# Altium integrated library CDE_Library.IntLib: 6171 symbols (part 18 of 25)
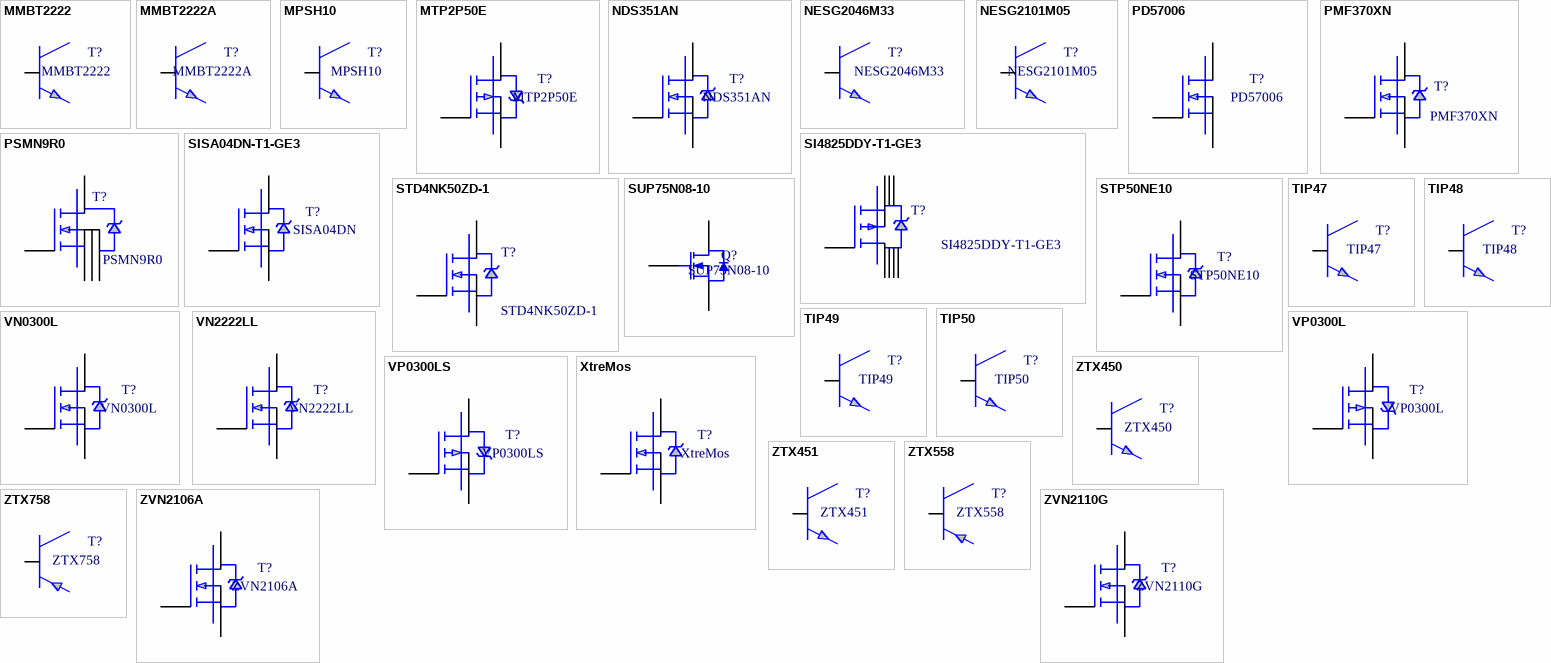
[diagram p274: symbols MMBT2222 to ZVN2110G]

## PMF370XN
designator T?
mosfet N-kanaal
footprint smd SOT-323
pins: 1, 2, 3

## PSMN9R0
designator T?
MOSFET, N CH, 25V, 46A
footprint smd SOT-669
pins: 1, 2, 3, 4, 5

## SI4825DDY-T1-GE3
designator T?
mosfet P-kanaal
footprint smd soicn/8
pins: 1, 2, 3, 4, 5, 6, 7, 8

## SISA04DN-T1-GE3
designator T?, comment SISA04DN
fet N-kanaal
footprint smd PPAK1212-8
pins: 1, 2, 3

## STD4NK50ZD-1
designator T?
mosfet N-kanaal
footprint TO-251aa
pins: 1, 2, 3

## STP50NE10
designator T?
mosfet N-kanaal
footprint TO-220 (vertikaal)
pins: 1, 2, 3

## SUP75N08-10
designator Q?
N-Channel 60V (D-S), 175'C  MOSFET
footprint TO-220 (vertikaal)
pins: 1 G, 2 D, 3 S

## TIP47
designator T?
NPN transistor
footprint TO-220 (vertikaal)
pins: 1, 2, 3

## TIP48
designator T?
NPN transistor
footprint TO-220 (vertikaal)
pins: 1, 2, 3

## TIP49
designator T?
NPN transistor
footprint TO-220 (vertikaal)
pins: 1, 2, 3

## TIP50
designator T?
NPN transistor
footprint TO-220 (vertikaal)
pins: 1, 2, 3

## VN0300L
designator T?
mosfet N-kanaal
footprint TO-92
pins: 1, 2, 3

## VN2222LL
designator T?
mosfet N-kanaal
footprint TO-92
pins: 1, 2, 3

## VP0300L
designator T?
mosfet P-kanaal
footprint TO-92
pins: 1, 2, 3

## VP0300LS
designator T?
mosfet P-kanaal
footprint TO-92
pins: 1, 2, 3

## XtreMos
designator T?
mosfet N-channel
footprint smd SO8FL/XtreMOS
pins: 1, 2, 3

## ZTX450
designator T?
NPN transistor
footprint E-line 3P
pins: 1, 2, 3

## ZTX451
designator T?
NPN transistor
footprint E-line 3P
pins: 1, 2, 3

## ZTX558
designator T?
PNP transistor
footprint E-line 3P
pins: 1, 2, 3

## ZTX758
designator T?
PNP transistor
footprint E-line 3P
pins: 1, 2, 3

## ZVN2106A
designator T?
mosfet N-kanaal
footprint TO-92
pins: 1, 2, 3

## ZVN2110G
designator T?
mosfet N-kanaal
footprint smd SOT-223
pins: 1, 2, 3


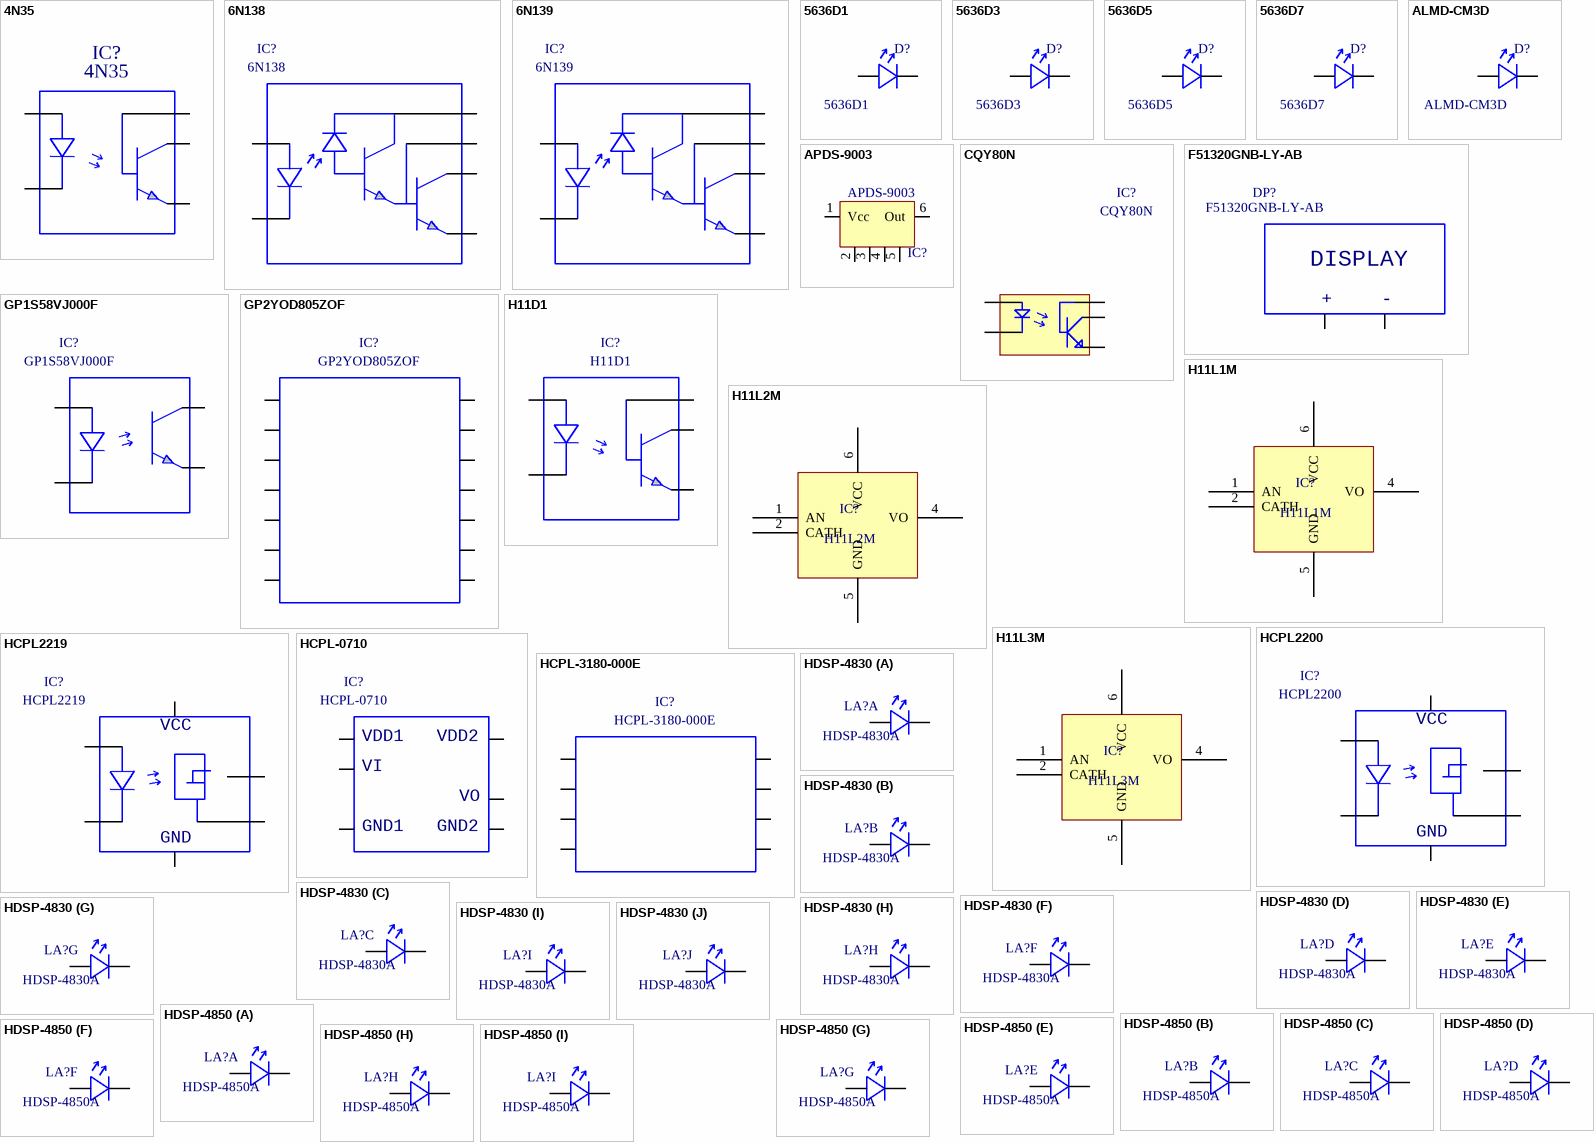
[diagram p194: symbols 4N35 to HDSP-4850]

## 4N35
designator IC?
general  purpose optocoupler
footprint icv DIP6-300
pins: 1, 2, 4, 5, 6

## 6N138
designator IC?
optocoupler, low input current, high gain, split darlington
footprint icv DIP8-300
pins: 2, 3, 5, 6, 7, 8

## 6N139
designator IC?
optocoupler, low input current, high gain, split darlington
footprint icv DIP8-300
pins: 2, 3, 5, 6, 7, 8

## 5636D1
designator D?
right angle led, CML 5636 serie, red
footprint CML5636
pins: 1, 2

## 5636D3
designator D?
right angle led, CML 5636 serie, amber
footprint CML5636
pins: 1, 2

## 5636D5
designator D?
right angle led, CML 5636 serie, green
footprint CML5636
pins: 1, 2

## 5636D7
designator D?
right angle led, CML 5636 serie, yellow
footprint CML5636
pins: 1, 2

## ALMD-CM3D
designator D?
led smd groen, Avago Techn., ALMD-CM3D
footprint led ALMD-xx3D (Avago Technologies)
pins: 1, 2

## APDS-9003
designator IC?
Miniature Surface-Mount Ambient Light Photo Sensor
footprint smd APDS-9003
pins: 1 Vcc, 2, 3, 4, 5, 6 Out

## CQY80N
designator IC?
general  purpose optocoupler
footprint icv DIP6-300
pins: 1, 2, 4, 5, 6

## F51320GNB-LY-AB
designator DP?
display
footprint F51320GNB-LY-AB (Optrex)
pins: 1, 2
text: DISPLAY; +; -

## GP1S58VJ000F
designator IC?
photointerruptor, Sharp GP1S58VJ000F
footprint photointerruptor GP1S58V (Sharp)
pins: 1, 2, 3, 4

## GP2YOD805ZOF
designator IC?
optical distance sensor, Sharp
footprint smd GP2Y0D805Z0F (Sharp)
pins: 1 CAT, 2 LED_FB, 3 LED, 4 GND, 5 NC, 6 NC, 7 REG, 8 NC, 9 NC, 10 NC, 11 VCC, 12 VIN, 13 VO, 14 ANODE

## H11D1
designator IC?
high voltage phototransistor optocoupler
footprint icv DIP6-300
pins: 1, 2, 4, 5, 6

## H11L1M
designator IC?
optoisolator logic output
footprint icv dip6-300
pins: 1 AN, 2 CATH, 4 VO, 5 GND, 6 VCC

## H11L2M
designator IC?
optoisolator logic output
footprint icv dip6-300
pins: 1 AN, 2 CATH, 4 VO, 5 GND, 6 VCC

## H11L3M
designator IC?
optoisolator logic output
footprint icv dip6-300
pins: 1 AN, 2 CATH, 4 VO, 5 GND, 6 VCC

## HCPL2200
designator IC?
optocoupler, low input current, logic gate
footprint icv DIP8-300
pins: 2, 3, 5, 6, 7, 8
text: VCC; GND

## HCPL2219
designator IC?
optocoupler, low input current, logic gate
footprint icv DIP8-300
pins: 2, 3, 5, 6, 7, 8
text: VCC; GND

## HCPL-0710
designator IC?
optocoupler, cmos, 40nS propag. delay
footprint smd SOICN/8
pins: 1, 2, 4, 5, 6, 8
text: VDD1; VDD2; VI; VO; GND1; GND2

## HCPL-3180-000E
designator IC?
2 Amp high speed gate drive optocoupler
footprint icv DIP8-300
pins: 1 NC, 2 ANODE, 3 CATHODE, 4 NC, 5 VEE, 6 VO, 7 VO, 8 VCC

## HDSP-4830
designator LA?, comment HDSP-4830A
led array 1x10 leds  rood
footprint led array 1x10 (Led Tech LL10000)
part A pins: 1, 20
part B pins: 2, 19
part C pins: 3, 18
part D pins: 4, 17
part E pins: 5, 16
part F pins: 6, 15
part G pins: 7, 14
part H pins: 8, 13
part I pins: 9, 12
part J pins: 10, 11

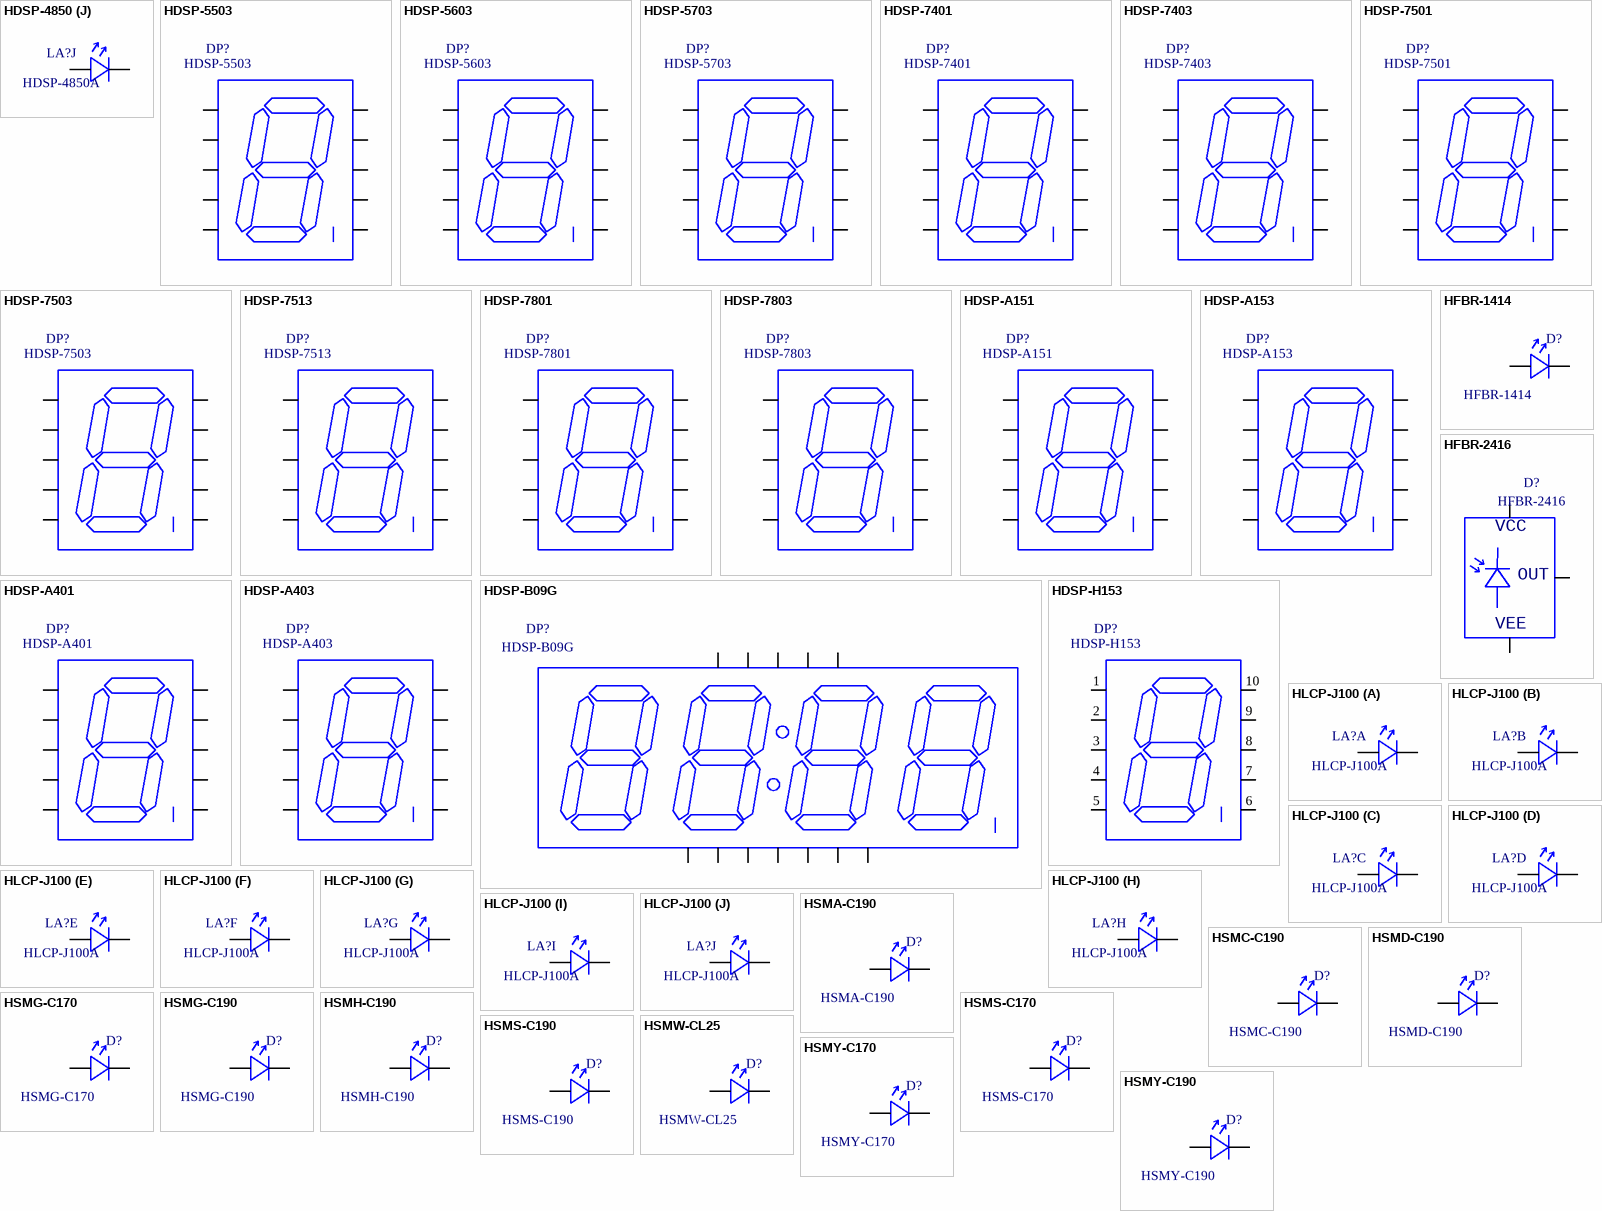
[diagram p195: symbols HDSP-4850 to HSMY-C190]

## HDSP-4850
designator LA?, comment HDSP-4850A
led array 1x10 leds  groen
footprint led array 1x10 (Led Tech LL10000)
part A pins: 1, 20
part B pins: 2, 19
part C pins: 3, 18
part D pins: 4, 17
part E pins: 5, 16
part F pins: 6, 15
part G pins: 7, 14
part H pins: 8, 13
part I pins: 9, 12
part J pins: 10, 11

## HDSP-5503
designator DP?
led display 7-segment Agilent, punt R, gem. C, HER
footprint dp H600/8./10p
pins: 1 e, 2 d, 3 CAT, 4 c, 5 dp, 6 b, 7 a, 8 CAT, 9 f, 10 g

## HDSP-5603
designator DP?
led display 7-segment Agilent, punt R, gem. C, groen
footprint dp H600/8./10p
pins: 1 e, 2 d, 3 CAT, 4 c, 5 dp, 6 b, 7 a, 8 CAT, 9 f, 10 g

## HDSP-5703
designator DP?
led display 7-segment Agilent, punt R, gem. C, geel
footprint dp H600/8./10p
pins: 1 e, 2 d, 3 CAT, 4 c, 5 dp, 6 b, 7 a, 8 CAT, 9 f, 10 g

## HDSP-7401
designator DP?
led display 7-segment Agilent, punt R, gem. A, geel
footprint dp H300/8./10p
pins: 1, 2, 3, 4, 5, 6, 7, 8, 9, 10

## HDSP-7403
designator DP?
led display 7-segment Agilent, punt R, gem. C, geel
footprint dp H300/8./10p
pins: 1, 2, 3, 4, 5, 6, 7, 8, 9, 10

## HDSP-7501
designator DP?
led display 7-segment Agilent, punt R, gem. A, HER
footprint dp H300/8./10p
pins: 1, 2, 3, 4, 5, 6, 7, 8, 9, 10

## HDSP-7503
designator DP?
led display 7-segment Agilent, punt R, gem. C, HER
footprint dp H300/8./10p
pins: 1, 2, 3, 4, 5, 6, 7, 8, 9, 10

## HDSP-7513
designator DP?
led display 7-segment Agilent, punt R, gem. C, HER
footprint dp H300/8./10p
pins: 1 CAT, 2 f, 3 g, 4 e, 5 d, 6 CAT, 7 dp, 8 c, 9 b, 10 a

## HDSP-7801
designator DP?
led display 7-segment Agilent, punt R, gem. A, groen
footprint dp H300/8./10p
pins: 1, 2, 3, 4, 5, 6, 7, 8, 9, 10

## HDSP-7803
designator DP?
led display 7-segment Agilent, punt R, gem. C, groen
footprint dp H300/8./10p
pins: 1, 2, 3, 4, 5, 6, 7, 8, 9, 10

## HDSP-A151
designator DP?
led display 7-segment Agilent, punt R, gem. A, AlGaAs
footprint dp H300/8./10p
pins: 1, 2, 3, 4, 5, 6, 7, 8, 9, 10

## HDSP-A153
designator DP?
led display 7-segment Agilent, punt R, gem. C, AlGaAs
footprint dp H300/8./10p
pins: 1, 2, 3, 4, 5, 6, 7, 8, 9, 10

## HDSP-A401
designator DP?
led display 7-segment Agilent, punt R, gem. A, oranje
footprint dp H300/8./10p
pins: 1, 2, 3, 4, 5, 6, 7, 8, 9, 10

## HDSP-A403
designator DP?
led display 7-segment Agilent, punt R, gem. C, oranje
footprint dp H300/8./10p
pins: 1, 2, 3, 4, 5, 6, 7, 8, 9, 10

## HDSP-B09G
designator DP?
led display 7-segment Agilent, 4-digit, groen
footprint dp HDSP-B09G (Agilent)
pins: 1, 2, 3, 4, 5, 6, 7, 8, 9, 10, 11, 12

## HDSP-H153
designator DP?
led display 7-segment Agilent, punt R, gem. C, AlGaAs
footprint dp H600/8./10p
pins: 1, 2, 3, 4, 5, 6, 7, 8, 9, 10

## HFBR-1414
designator D?
low cost high-speed transmitter
footprint optische connector (Agilent HFBR-1414)
pins: 2, 3

## HFBR-2416
designator D?
low cost high-speed receiver
footprint optische connector (Agilent HFBR-1414)
pins: 2, 6, 7
text: VCC; OUT; VEE

## HLCP-J100
designator LA?, comment HLCP-J100A
led array 1x10 leds  rood
footprint led array 1x10 (Led Tech LL10000)
part A pins: 1, 20
part B pins: 2, 19
part C pins: 3, 18
part D pins: 4, 17
part E pins: 5, 16
part F pins: 6, 15
part G pins: 7, 14
part H pins: 8, 13
part I pins: 9, 12
part J pins: 10, 11

## HSMA-C190
designator D?
led smd amber, Avago Techn., HSMA-C190
footprint led HSMH-C190 (Avago Technologies)
pins: 1, 2

## HSMC-C190
designator D?
led smd rood, Avago Techn., HSMC-C190
footprint led HSMH-C190 (Avago Technologies)
pins: 1, 2

## HSMD-C190
designator D?
led smd oranje, Avago Techn., HSMD-C190
footprint led HSMH-C190 (Avago Technologies)
pins: 1, 2

## HSMG-C170
designator D?
led smd groen, Avago Techn., HSMG-C170
footprint led HSMH-C190 (Avago Technologies)
pins: 1, 2

## HSMG-C190
designator D?
led smd groen, Avago Techn., HSMG-C190
footprint led HSMH-C190 (Avago Technologies)
pins: 1, 2

## HSMH-C190
designator D?
led smd rood, Avago Techn., HSMH-C190
footprint led HSMH-C190 (Avago Technologies)
pins: 1, 2

## HSMS-C170
designator D?
led smd he-rood, Avago Techn., HSMS-C170
footprint led HSMH-C190 (Avago Technologies)
pins: 1, 2

## HSMS-C190
designator D?
led smd rood HE, Avago Techn., HSMS-C190
footprint led HSMH-C190 (Avago Technologies)
pins: 1, 2

## HSMW-CL25
designator D?
led smd wit, Avago Techn., HSMW-CL25
footprint led HSMH-C190 (Avago Technologies)
pins: 1, 2

## HSMY-C170
designator D?
led smd geel, Avago Techn., HSMY-C170
footprint led HSMH-C190 (Avago Technologies)
pins: 1, 2

## HSMY-C190
designator D?
led smd geel, Avago Techn., HSMY-C190
footprint led HSMH-C190 (Avago Technologies)
pins: 1, 2

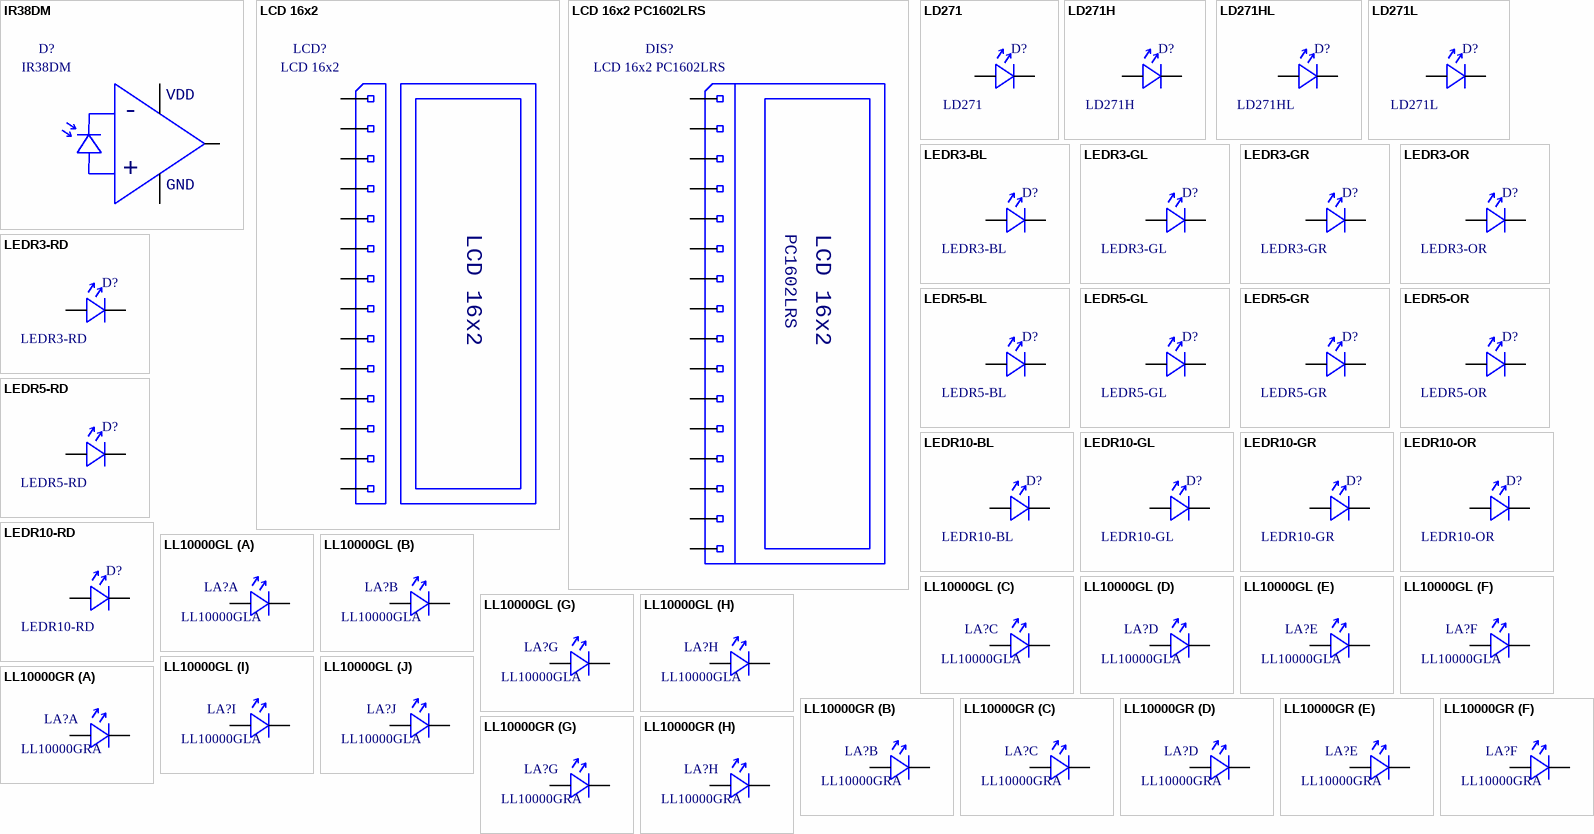
[diagram p196: symbols IR38DM to LL10000GR]

## IR38DM
designator D?
infrared demodulator, Velleman
footprint fotodiode (Taos TSL26xR)
pins: 1, 2, 3
text: VDD; -; +; GND

## LCD 16x2
designator LCD?
LCD display HD44780 compatible
footprint LCD 16x2 HD44780 compatible (LCD 16x2)
pins: 1 Vss, 2 Vdd, 3 Vo, 4 RS, 5 R/'W', 6 E, 7 DB0, 8 DB1, 9 DB2, 10 DB3, 11 DB4, 12 DB5, 13 DB6, 14 DB7

## LCD 16x2 PC1602LRS
designator DIS?
LCD display Powertip PC1602LRS
footprint LCD 16x2 PC1602LRS (Powertip PC1602LRS)
pins: 1 Vss, 2 Vdd, 3 Vo, 4 RS, 5 R/'W', 6 E, 7 DB0, 8 DB1, 9 DB2, 10 DB3, 11 DB4, 12 DB5, 13 DB6, 14 DB7, 15 A, 16 K
text: PC1602LRS; LCD 16x2

## LD271
designator D?
led rond 5mm  infrarood
footprint led (rond 5mm)
pins: 1, 2

## LD271H
designator D?
led rond 5mm  infrarood
footprint led (rond 5mm)
pins: 1, 2

## LD271HL
designator D?
led rond 5mm  infrarood
footprint led (rond 5mm)
pins: 1, 2

## LD271L
designator D?
led rond 5mm  infrarood
footprint led (rond 5mm)
pins: 1, 2

## LEDR3-BL
designator D?
led rond 3mm  blauw
footprint led (rond 3mm)
pins: 1, 2

## LEDR3-GL
designator D?
led rond 3mm  geel
footprint led (rond 3mm)
pins: 1, 2

## LEDR3-GR
designator D?
led rond 3mm  groen
footprint led (rond 3mm)
pins: 1, 2

## LEDR3-OR
designator D?
led rond 3mm  oranje
footprint led (rond 3mm)
pins: 1, 2

## LEDR3-RD
designator D?
led rond 3mm  rood
footprint led (rond 3mm)
pins: 1, 2

## LEDR5-BL
designator D?
led rond 5mm  blauw
footprint led (rond 5mm)
pins: 1, 2

## LEDR5-GL
designator D?
led rond 5mm  geel
footprint led (rond 5mm)
pins: 1, 2

## LEDR5-GR
designator D?
led rond 5mm  groen
footprint led (rond 5mm)
pins: 1, 2

## LEDR5-OR
designator D?
led rond 5mm  oranje
footprint led (rond 5mm)
pins: 1, 2

## LEDR5-RD
designator D?
led rond 5mm  rood
footprint led (rond 5mm)
pins: 1, 2

## LEDR10-BL
designator D?
led rond 10mm blauw
footprint led (rond 10mm)
pins: 1, 2

## LEDR10-GL
designator D?
led rond 10mm geel
footprint led (rond 10mm)
pins: 1, 2

## LEDR10-GR
designator D?
led rond 10mm groen
footprint led (rond 10mm)
pins: 1, 2

## LEDR10-OR
designator D?
led rond 10mm oranje
footprint led (rond 10mm)
pins: 1, 2

## LEDR10-RD
designator D?
led rond 10mm rood
footprint led (rond 10mm)
pins: 1, 2

## LL10000GL
designator LA?, comment LL10000GLA
led array 1x10 leds  geel
footprint led array 1x10 (Led Tech LL10000)
part A pins: 1, 20
part B pins: 2, 19
part C pins: 3, 18
part D pins: 4, 17
part E pins: 5, 16
part F pins: 6, 15
part G pins: 7, 14
part H pins: 8, 13
part I pins: 9, 12
part J pins: 10, 11

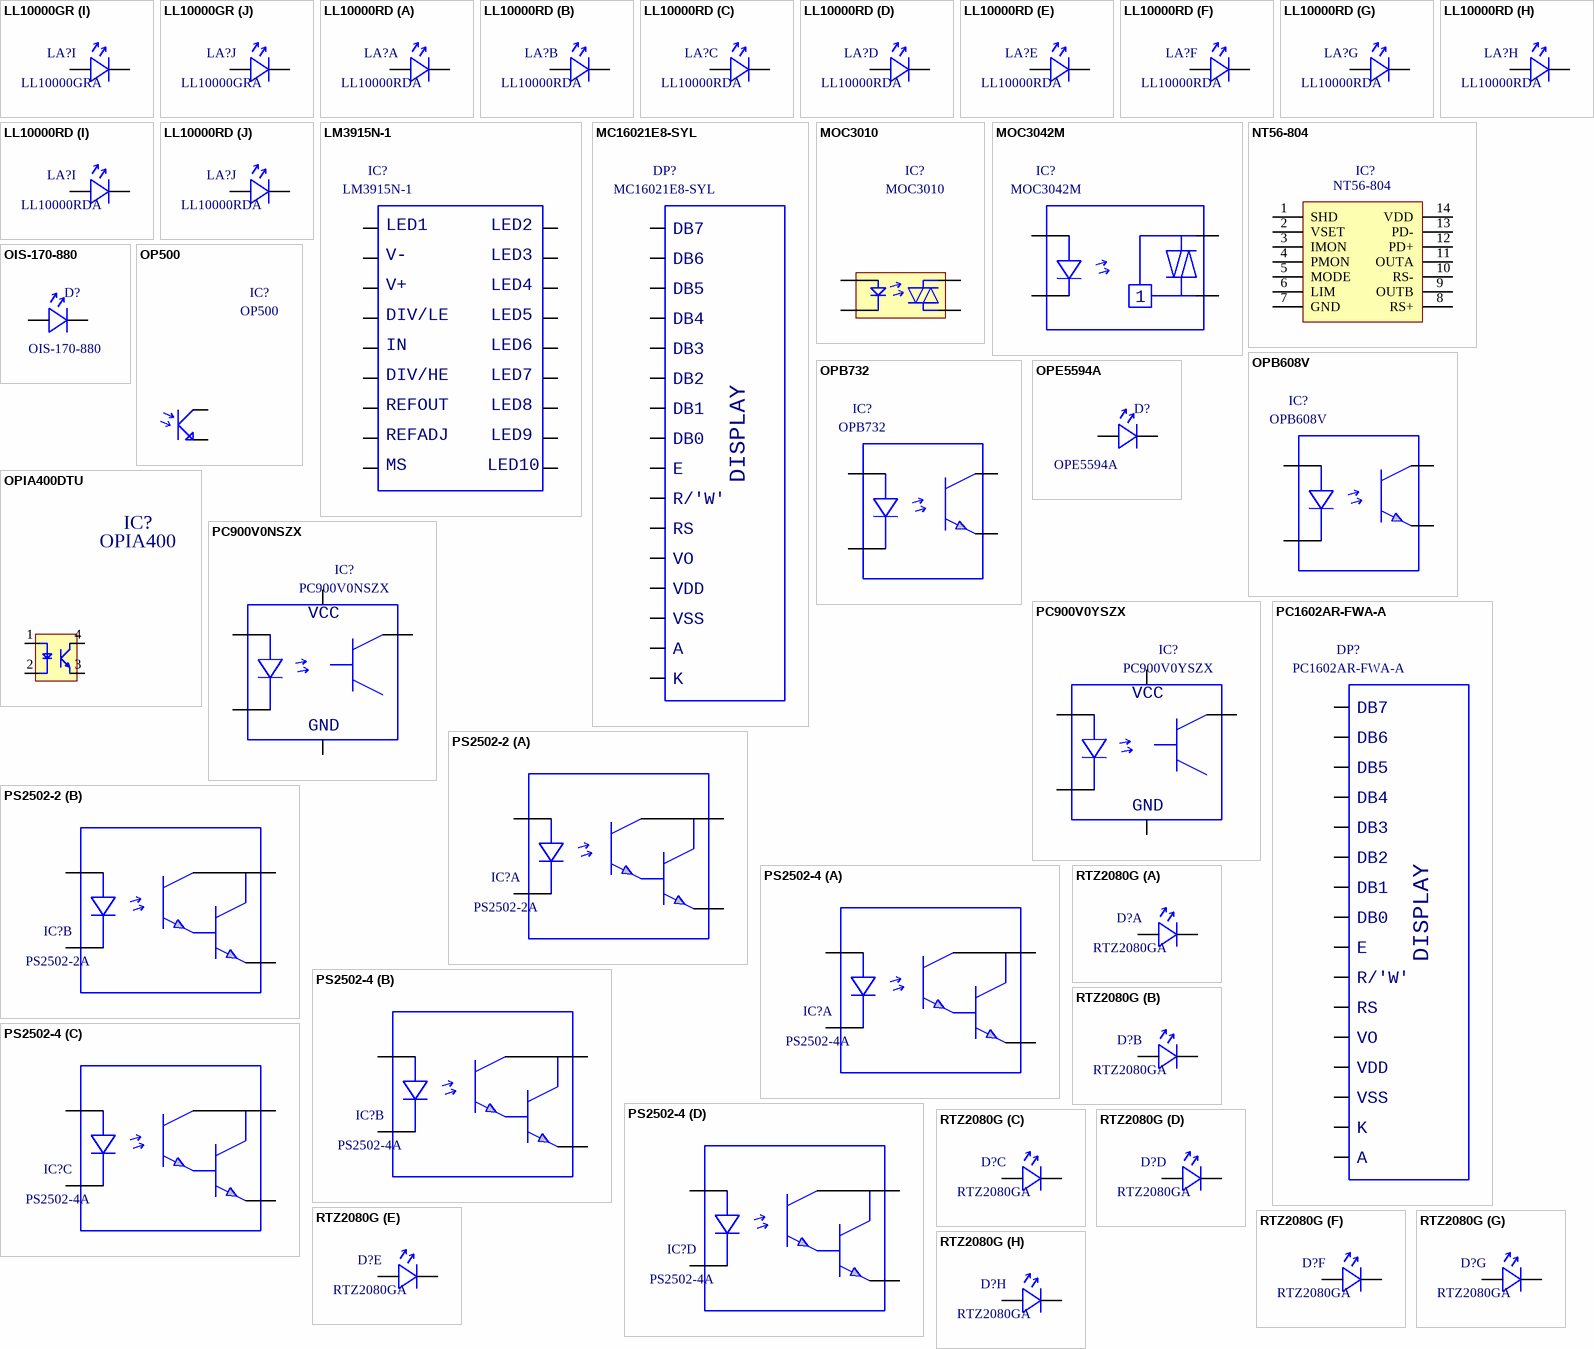
[diagram p197: symbols LL10000GR to RTZ2080G]

## LL10000GR
designator LA?, comment LL10000GRA
led array 1x10 leds  groen
footprint led array 1x10 (Led Tech LL10000)
part A pins: 1, 20
part B pins: 2, 19
part C pins: 3, 18
part D pins: 4, 17
part E pins: 5, 16
part F pins: 6, 15
part G pins: 7, 14
part H pins: 8, 13
part I pins: 9, 12
part J pins: 10, 11

## LL10000RD
designator LA?, comment LL10000RDA
led array 1x10 leds  rood
footprint led array 1x10 (Led Tech LL10000)
part A pins: 1, 20
part B pins: 2, 19
part C pins: 3, 18
part D pins: 4, 17
part E pins: 5, 16
part F pins: 6, 15
part G pins: 7, 14
part H pins: 8, 13
part I pins: 9, 12
part J pins: 10, 11

## LM3915N-1
designator IC?
dot/bar display driver
footprint icv DIP18-300
pins: 1, 2, 3, 4, 5, 6, 7, 8, 9, 10, 11, 12, 13, 14, 15, 16, 17, 18
text: LED1; LED2; V-; LED3; V+; LED4; DIV/LE; LED5; IN; LED6; DIV/HE; LED7; REFOUT; LED8; REFADJ; LED9; MS; LED10

## MC16021E8-SYL
designator DP?
lcd display
footprint MC16021E8-SYL (Everbouquet)
pins: 1, 2, 3, 4, 5, 6, 7, 8, 9, 10, 11, 12, 13, 14, 15, 16
text: DB7; DB6; DB5; DB4; DB3; DB2; DB1; DB0; E; DISPLAY; R/'W'; RS; VO; VDD; VSS; A; K

## MOC3010
designator IC?
Optocoupler Triac driver
footprint icv DIP6-300
pins: 1, 2, 4, 6

## MOC3042M
designator IC?
Optocoupler Triac driver
footprint icv DIP6-300
pins: 1, 2, 4, 6

## NT56-804
designator IC?
Ultrastable Driver for Laser Diodes
footprint NT56-804
pins: 1 SHD, 2 VSET, 3 IMON, 4 PMON, 5 MODE, 6 LIM, 7 GND (power), 8 RS+, 9 OUTB, 10 RS-, 11 OUTA, 12 PD+, 13 PD-, 14 VDD (power)

## OIS-170-880
designator D?
infrarood led, high intensity
footprint SMD C0805 (Chip Capacitor; Body 2.0 x 1.2 mm (LxW typ))
pins: 1, 2

## OP500
designator IC?
Silicon Phototransistor
footprint SMD C0805 (Chip Capacitor; Body 2.0 x 1.2 mm (LxW typ))
pins: 1, 2

## OPB608V
designator IC?
reflective sensor, Optek
footprint sensor OPB608 (Optek Technology)
pins: 1, 2, 3, 4

## OPB732
designator IC?
long distance reflective switch
footprint OPB732 (Optek)
pins: 1, 2, 3, 4

## OPE5594A
designator D?
infrarood led, 5mm
footprint led (rond 5mm)
pins: 1, 2

## OPIA400DTU
designator IC?, comment OPIA400
general  purpose optocoupler
footprint icv DIP4-300
pins: 1, 2, 3, 4

## PC900V0NSZX
designator IC?
optocoupler
footprint icv DIP6-300
pins: 1, 2, 4, 5, 6
text: VCC; GND

## PC900V0YSZX
designator IC?
optocoupler
footprint icv DIP6-300
pins: 1, 2, 4, 5, 6
text: VCC; GND

## PC1602AR-FWA-A
designator DP?
lcd display
footprint PC1602AR-FWA-A (Powertip)
pins: 1, 2, 3, 4, 5, 6, 7, 8, 9, 10, 11, 12, 13, 14, 15, 16
text: DB7; DB6; DB5; DB4; DB3; DB2; DB1; DB0; E; DISPLAY; R/'W'; RS; VO; VDD; VSS; K; A

## PS2502-2
designator IC?, comment PS2502-2A
high isolation darlington optocouplers, NEC
footprint icv DIP8-300
part A pins: 1, 2, 7, 8
part B pins: 3, 4, 5, 6

## PS2502-4
designator IC?, comment PS2502-4A
high isolation darlington optocouplers, NEC
footprint icv DIP16-300
part A pins: 1, 2, 15, 16
part B pins: 3, 4, 13, 14
part C pins: 5, 6, 11, 12
part D pins: 7, 8, 9, 10

## RTZ2080G
designator D?, comment RTZ2080GA
led array, 1x8 leds 2mm, rechtop, groen, Mentor
footprint led array 1x8 (Mentor RTZ2080)
part A pins: 1, 2
part B pins: 3, 4
part C pins: 5, 6
part D pins: 7, 8
part E pins: 9, 10
part F pins: 11, 12
part G pins: 13, 14
part H pins: 15, 16

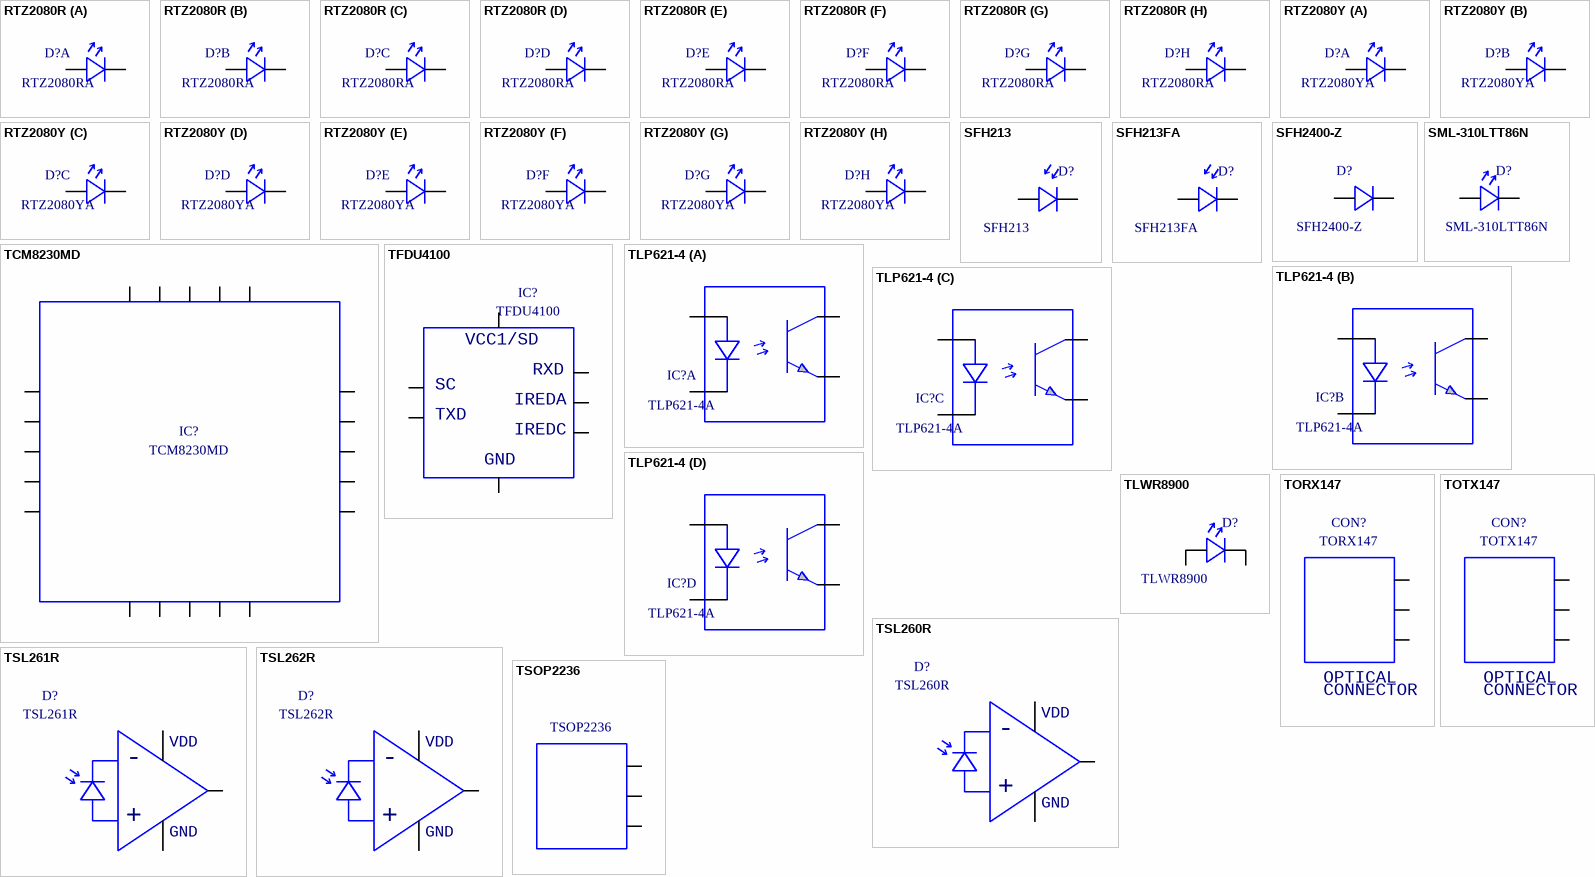
[diagram p198: symbols RTZ2080R to TSOP2236]

## RTZ2080R
designator D?, comment RTZ2080RA
led array, 1x8 leds 2mm, rechtop, rood, Mentor
footprint led array 1x8 (Mentor RTZ2080)
part A pins: 1, 2
part B pins: 3, 4
part C pins: 5, 6
part D pins: 7, 8
part E pins: 9, 10
part F pins: 11, 12
part G pins: 13, 14
part H pins: 15, 16

## RTZ2080Y
designator D?, comment RTZ2080YA
led array, 1x8 leds 2mm, rechtop, geel, Mentor
footprint led array 1x8 (Mentor RTZ2080)
part A pins: 1, 2
part B pins: 3, 4
part C pins: 5, 6
part D pins: 7, 8
part E pins: 9, 10
part F pins: 11, 12
part G pins: 13, 14
part H pins: 15, 16

## SFH213
designator D?
silicium pin-fotodiode
footprint led (rond 5mm)
pins: 1, 2

## SFH213FA
designator D?
silicium pin-fotodiode
footprint led (rond 5mm)
pins: 1, 2

## SFH2400-Z
designator D?
photodetector, Osram SFH2400-Z
footprint smd SFH2400 (Osram)
pins: 1, 2

## SML-310LTT86N
designator D?
led, high intensity
footprint SMD C0603 (Chip Capacitor; Body 1.6 x 0.8 mm (LxW typ))
pins: 1, 2

## TCM8230MD
designator IC?
camera module Toshiba
footprint TCM8230MD (Toshiba)
pins: 1 PVDD, 2 EXTCLK, 3 RESET, 4 SCL, 5 SDA, 6 DVDD, 7 DVSS, 8 VD, 9 HD, 10 DCLK, 11 DOUT0, 12 DOUT1, 13 DOUT2, 14 DOUT3, 15 IOVSS, 16 IOVDD, 17 DOUT4, 18 DOUT5, 19 DOUT6, 20 DOUT7

## TFDU4100
designator IC?
seriële infrarood transceiver
footprint TFDU4100
pins: 1, 2, 3, 4, 6, 7, 8
text: VCC1/SD; RXD; SC; IREDA; TXD; IREDC; GND

## TLP621-4
designator IC?, comment TLP621-4A
quadruple optocoupler
footprint icv DIP16-300
part A pins: 1, 2, 15, 16
part B pins: 3, 4, 13, 14
part C pins: 5, 6, 11, 12
part D pins: 7, 8, 9, 10

## TLWR8900
designator D?
Red LED vishay TLW series
footprint led (Vishay TLWR)
pins: 1, 2, 3, 4

## TORX147
designator CON?
optical receiver, Toslink, Toshiba
footprint optische ontvanger TORX147 (Toshiba)
pins: 1 OUT, 2 GND, 3 VCC
text: OPTICAL; CONNECTOR

## TOTX147
designator CON?
optical transmitter, Toslink, Toshiba
footprint optische ontvanger TORX147 (Toshiba)
pins: 1 GND, 2 VCC, 3 IN
text: OPTICAL; CONNECTOR

## TSL260R
designator D?
infrared light-to-voltage optical sensor, Taos
footprint fotodiode (Taos TSL26xR)
pins: 1, 2, 3
text: VDD; -; +; GND

## TSL261R
designator D?
infrared light-to-voltage optical sensor, Taos
footprint fotodiode (Taos TSL26xR)
pins: 1, 2, 3
text: VDD; -; +; GND

## TSL262R
designator D?
infrared light-to-voltage optical sensor, Taos
footprint fotodiode (Taos TSL26xR)
pins: 1, 2, 3
text: VDD; -; +; GND

## TSOP2236
designator ?
IR receiver module, Vishay
pins: 1, 2, 3


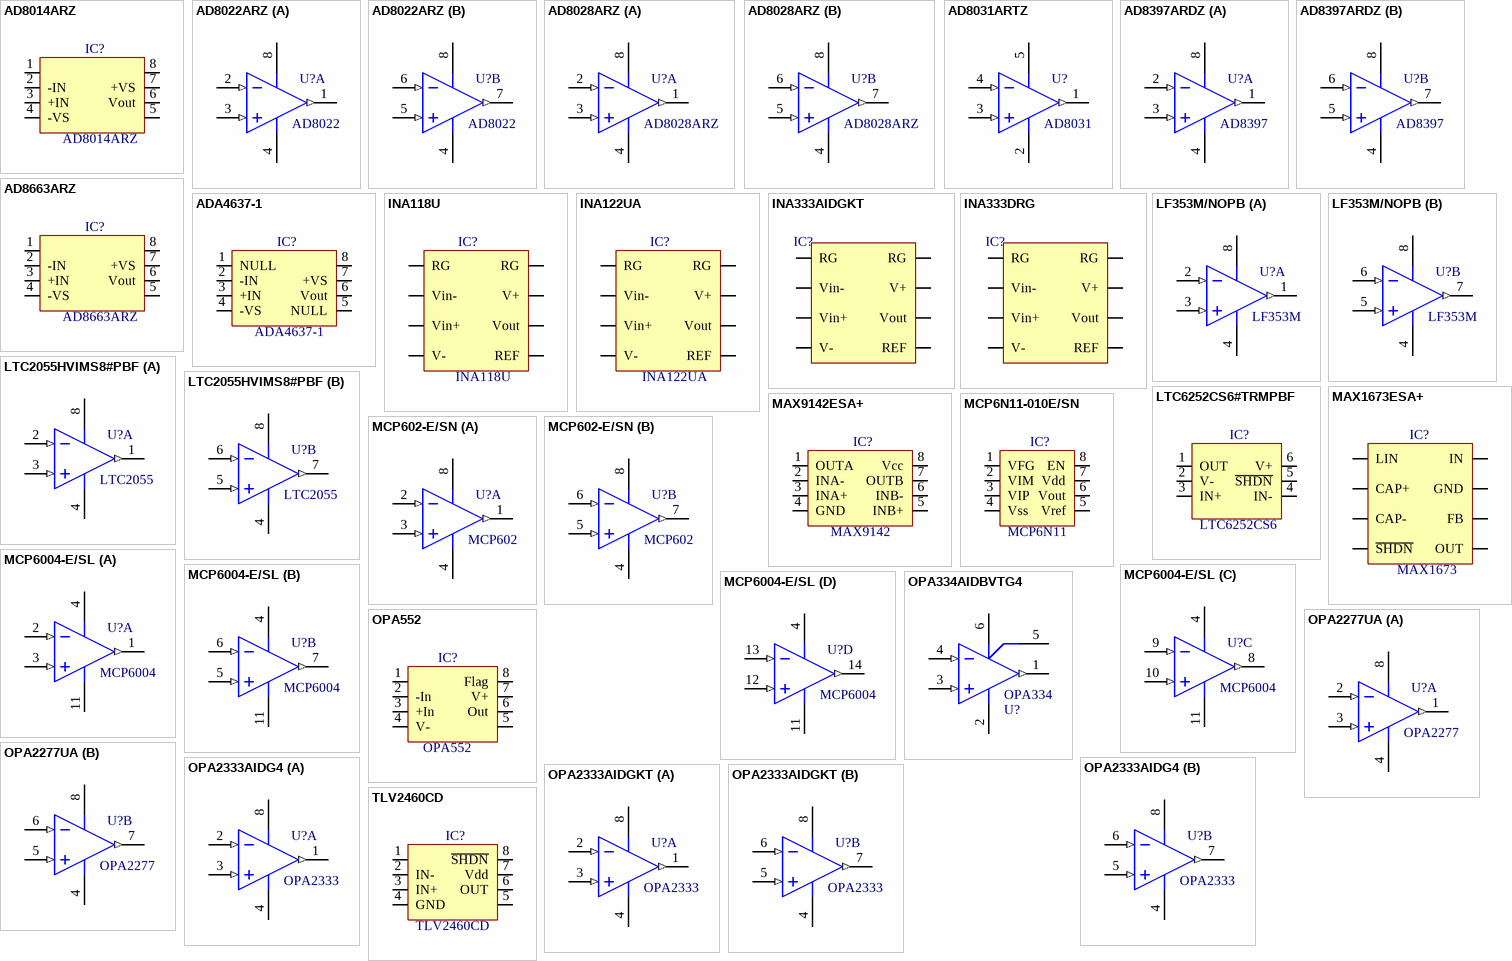
[diagram p199: symbols AD8014ARZ to TLV2460CD]

## AD8014ARZ
designator IC?
40ns, 400 MHz Low Power  High Performance Amplifier
footprint smd SOICN/8
pins: 1, 2 -IN, 3 +IN, 4 -VS, 5, 6 Vout, 7 +VS, 8

## AD8022ARZ
designator U?, comment AD8022
Low Distortion, High Speed   Rail-to-Rail Input/Output Amplifier
footprint smd soicn/8
pins on every part: 4 V- (power), 8 V+ (power)
part A pins: 1 OUT (out), 2 IN- (in), 3 IN+ (in)
part B pins: 5 IN+ (in), 6 IN- (in), 7 OUT (out)

## AD8028ARZ
designator U?
Low Distortion, High Speed   Rail-to-Rail Input/Output Amplifier
footprint smd soicn/8
pins on every part: 4 V- (power), 8 V+ (power)
part A pins: 1 OUT (out), 2 IN- (in), 3 IN+ (in)
part B pins: 5 IN+ (in), 6 IN- (in), 7 OUT (out)

## AD8031ARTZ
designator U?, comment AD8031
2.7 V, 800 µA, 80 MHz   Rail-to-Rail I/O Amplifier
footprint smd SOT-23/5p (body 1.6 wide, pitch 0.95mm)
pins: 1 OUT (out), 2 V- (power), 3 IN+ (in), 4 IN- (in), 5 V+ (power)

## AD8397ARDZ
designator U?, comment AD8397
Rail-to-Rail, High Output   Current Amplifier
footprint smd soicn/8
pins on every part: 4 V- (power), 8 V+ (power)
part A pins: 1 OUT (out), 2 IN- (in), 3 IN+ (in)
part B pins: 5 IN+ (in), 6 IN- (in), 7 OUT (out)

## AD8663ARZ
designator IC?
Low Noise, Precision, 16 V, CMOS,  Rail-to-Rail Operational Amplifier
footprint smd SOICN/8
pins: 1, 2 -IN, 3 +IN, 4 -VS, 5, 6 Vout, 7 +VS, 8

## ADA4637-1
designator IC?
36 V, 80 MHz, Low Noise,   Low Bias Current, JFET Op Amp
footprint smd SOICN/8
pins: 1 NULL, 2 -IN, 3 +IN, 4 -VS, 5 NULL, 6 Vout, 7 +VS, 8

## INA118U
designator IC?
Rail-to-rail instrumentation Amplifier
footprint smd SOICN/8
pins: 1 RG, 2 Vin-, 3 Vin+, 4 V-, 5 REF, 6 Vout, 7 V+, 8 RG

## INA122UA
designator IC?
Rail-to-rail instrumentation Amplifier
footprint smd SOICN/8
pins: 1 RG, 2 Vin-, 3 Vin+, 4 V-, 5 REF, 6 Vout, 7 V+, 8 RG

## INA333AIDGKT
designator IC?  (value not drawn)
Rail-to-rail instrumentation Amplifier
footprint smd MSOP/8
pins: 1 RG, 2 Vin-, 3 Vin+, 4 V-, 5 REF, 6 Vout, 7 V+, 8 RG

## INA333DRG
designator IC?  (value not drawn)
Rail-to-rail instrumentation Amplifier
footprint smd DFN8 (3x3/0.5)
pins: 1 RG, 2 Vin-, 3 Vin+, 4 V-, 5 REF, 6 Vout, 7 V+, 8 RG

## LF353M/NOPB
designator U?, comment LF353M
Dual Wide Bandwidth Dual JFET Input Operational Amplifier
footprint smd soicn/8
pins on every part: 4 V- (power), 8 V+ (power)
part A pins: 1 OUT (out), 2 IN- (in), 3 IN+ (in)
part B pins: 5 IN+ (in), 6 IN- (in), 7 OUT (out)

## LTC2055HVIMS8#PBF
designator U?, comment LTC2055
Dual Micropower  Zero-Drift Operational Amplifi er
footprint smd MSOP/8
pins on every part: 4 V- (power), 8 V+ (power)
part A pins: 1 OUT (out), 2 IN- (in), 3 IN+ (in)
part B pins: 5 IN+ (in), 6 IN- (in), 7 OUT (out)

## LTC6252CS6#TRMPBF
designator IC?, comment LTC6252CS6
720MHz, 3.5mA Power   Efficient Rail-to-Rail   I/O Op Amp
footprint smd SOT-23/6p (body 1.6 wide, pitch 0.95mm)
pins: 1 OUT, 2 V-, 3 IN+, 4 IN-, 5 ~{SHDN}, 6 V+

## MAX1673ESA+
designator IC?, comment MAX1673
Regulated, 125mA-Output,  Charge-Pump DC-DC Inverter
footprint smd SOICN/8
pins: 1 LIN, 2 CAP+, 3 CAP-, 4 ~{SHDN}, 5 OUT, 6 FB, 7 GND, 8 IN

## MAX9142ESA+
designator IC?, comment MAX9142
40ns, Low-Power, 3V/5V, Rail-to-Rail  Single-Supply Comparator
footprint smd SOICN/8
pins: 1 OUTA, 2 INA-, 3 INA+, 4 GND, 5 INB+, 6 INB-, 7 OUTB, 8 Vcc

## MCP6N11-010E/SN
designator IC?, comment MCP6N11
500 kHz, 800 µA Instrumentation Amplifier
footprint smd soicn/8
pins: 1 VFG, 2 VIM, 3 VIP, 4 Vss, 5 Vref, 6 Vout, 7 Vdd, 8 EN

## MCP602-E/SN
designator U?, comment MCP602
Dual 2.7V to 6.0V Single Supply CMOS Op Amp
footprint smd soicn/8
pins on every part: 4 V- (power), 8 V+ (power)
part A pins: 1 OUT (out), 2 IN- (in), 3 IN+ (in)
part B pins: 5 IN+ (in), 6 IN- (in), 7 OUT (out)

## MCP6004-E/SL
designator U?, comment MCP6004
Quad 1Mhz Opamp
footprint smd SOICN/14
part A pins: 1 OUT (out), 2 IN- (in), 3 IN+ (in), 4 V+ (power), 11 V- (power)
part B pins: 4 V+ (power), 5 IN+ (in), 6 IN- (in), 7 OUT (out), 11 V- (power)
part C pins: 4 V+ (power), 8 OUT (out), 9 IN- (in), 10 IN+ (in), 11 V- (power)
part D pins: 4 V+ (power), 11 V- (power), 12 IN+ (in), 13 IN- (in), 14 OUT (out)

## OPA334AIDBVTG4
designator U?, comment OPA334
High Precision  OPERATIONAL AMPLIFIER
footprint smd SOT-23/6p (body 1.6 wide, pitch 0.95mm)
pins: 1 OUT (out), 2 V- (power), 3 IN+ (in), 4 IN- (in), 5, 6 V+ (power)

## OPA552
designator IC?
High-Voltage, High-Current operational amplifier
footprint icv DIP8-300
pins: 1, 2 -In, 3 +In, 4 V-, 5, 6 Out, 7 V+, 8 Flag

## OPA2277UA
designator U?, comment OPA2277
High Precision  OPERATIONAL AMPLIFIER
footprint smd soicn/8
pins on every part: 4 V- (power), 8 V+ (power)
part A pins: 1 OUT (out), 2 IN- (in), 3 IN+ (in)
part B pins: 5 IN+ (in), 6 IN- (in), 7 OUT (out)

## OPA2333AIDG4
designator U?, comment OPA2333
Dual Micropower  Zero-Drift Operational Amplifi er
footprint smd soicn/8
pins on every part: 4 V- (power), 8 V+ (power)
part A pins: 1 OUT (out), 2 IN- (in), 3 IN+ (in)
part B pins: 5 IN+ (in), 6 IN- (in), 7 OUT (out)

## OPA2333AIDGKT
designator U?, comment OPA2333
Dual Micropower  Zero-Drift Operational Amplifi er
footprint smd MSOP/8
pins on every part: 4 V- (power), 8 V+ (power)
part A pins: 1 OUT (out), 2 IN- (in), 3 IN+ (in)
part B pins: 5 IN+ (in), 6 IN- (in), 7 OUT (out)

## TLV2460CD
designator IC?
Rail to rail opamp
footprint smd SOICN/8
pins: 1, 2 IN-, 3 IN+, 4 GND, 5, 6 OUT, 7 Vdd, 8 ~{SHDN}


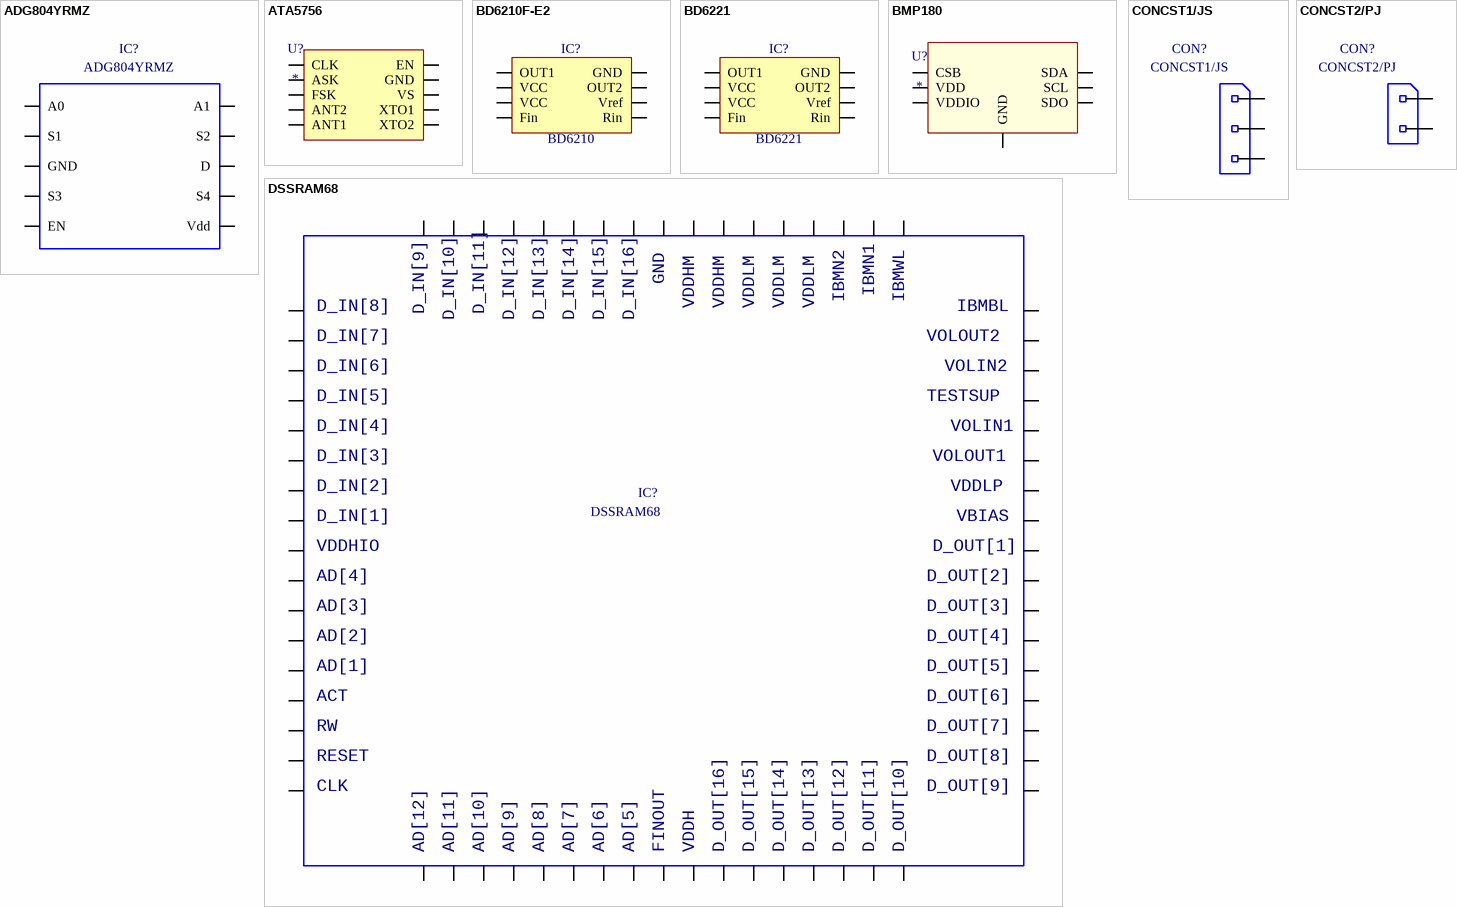
[diagram p200: symbols ADG804YRMZ to DSSRAM68]

## ADG804YRMZ
designator IC?
4-channel multiplexer ref. Jens Verbeeck; Part Number: ADG804YRMZ; Component Kind: Standard; Component Type: Standard; Designator: ADG804YRMZ; Footprint: smd MSOP/10; Library Reference: ADG804YRMZ; Pin Count: 10
footprint smd MSOP/10
pins: 1 A0, 2 S1, 3 GND, 4 S3, 5 EN, 6 Vdd, 7 S4, 8 D, 9 S2, 10 A1

## ATA5756
designator U?
UHF ASK/FSK  Transmitter
footprint TSSOP10
pins: 1 CLK, 2 ASK, 3 FSK, 4 ANT2, 5 ANT1, 6 XTO2, 7 XTO1, 8 VS, 9 GND, 10 EN

## BD6210F-E2
designator IC?, comment BD6210
H-brug 7V-0.5A; Part Number: BD6221; Component Kind: Standard; Component Type: Standard; Designator: BD6221; Footprint: smd SOICN/8; Library Reference: BD6221; Pin Count: 8
footprint smd SOICN/8
pins: 1 OUT1, 2 VCC, 3 VCC, 4 Fin, 5 Rin, 6 Vref, 7 OUT2, 8 GND

## BD6221
designator IC?
H-brug 18V-1A; Part Number: BD6221; Component Kind: Standard; Component Type: Standard; Designator: BD6221; Footprint: smd SOICN/8; Library Reference: BD6221; Pin Count: 8
footprint smd SOICN/8
pins: 1 OUT1, 2 VCC, 3 VCC, 4 Fin, 5 Rin, 6 Vref, 7 OUT2, 8 GND

## BMP180
designator U?
Digital Pressure Sensor Bosch
footprint BMP180 (Pressure sensor Bosch)
pins: 1 CSB, 2 VDD, 3 VDDIO, 4 SDO, 5 SCL, 6 SDA, 7 GND

## CONCST1/JS
designator CON?
ref. Jan Symons; Part Number: CONCST1/JS; Component Kind: Standard; Component Type: Standard; Designator: CONCST1/JS; Footprint: con custom 1; Library Reference: CONCST1/JS; Pin Count: 3
footprint con custom 1
pins: 1, 2, 3

## CONCST2/PJ
designator CON?
ref. Pieter Jacqmaer; Part Number: CONCST2/PJ; Component Kind: Standard; Component Type: Standard; Designator: CONCST2/PJ; Footprint: con CST2/PJ; Library Reference: CONCST2/PJ; Pin Count: 2
footprint con CST2/PJ
pins: 1, 2

## DSSRAM68
designator IC?
ref. Peter Geens; Part Number: DSSRAM68; Component Kind: Standard; Component Type: Standard; Designator: DSSRAM68; Footprint: icv LCC/.1/68 (3M); Library Reference: DSSRAM68; Pin Count: 68
footprint icv LCC/.1/68 (3M)
pins: 1, 2, 3, 4, 5, 6, 7, 8, 9, 10, 11, 12, 13, 14, 15, 16, 17, 18, 19, 20, 21, 22, 23, 24, 25, 26, 27, 28, 29, 30, 31, 32, 33, 34, 35, 36, 37, 38, 39, 40, 41, 42, 43, 44, 45, 46, 47, 48, 49, 50, 51, 52, 53, 54, 55, 56, 57, 58, 59, 60, 61, 62, 63, 64, 65, 66, 67, 68
text: GND; IBMN1; IBMN2; IBMWL; VDDHM; VDDLM; D_IN[8]; D_IN[9]; D_IN[10]; D_IN[11]; D_IN[12]; D_IN[13]; D_IN[14]; D_IN[15]; D_IN[16]; IBMBL; D_IN[7]; VOLOUT2; D_IN[6]; VOLIN2; D_IN[5]; TESTSUP; D_IN[4]; VOLIN1; D_IN[3]; VOLOUT1; D_IN[2]; VDDLP; D_IN[1]; VBIAS; VDDHIO; D_OUT[1]; AD[4]; D_OUT[2]; AD[3]; D_OUT[3]; AD[2]; D_OUT[4]; AD[1]; D_OUT[5]; ACT; D_OUT[6]; RW; D_OUT[7]; RESET; D_OUT[8]; CLK; D_OUT[9]; AD[12]; AD[11]; AD[10]; AD[9]; AD[8]; AD[7]; AD[6]; AD[5]; FINOUT; VDDH; D_OUT[16]; D_OUT[15]; D_OUT[14]; D_OUT[13]; D_OUT[12]; D_OUT[11]; D_OUT[10]

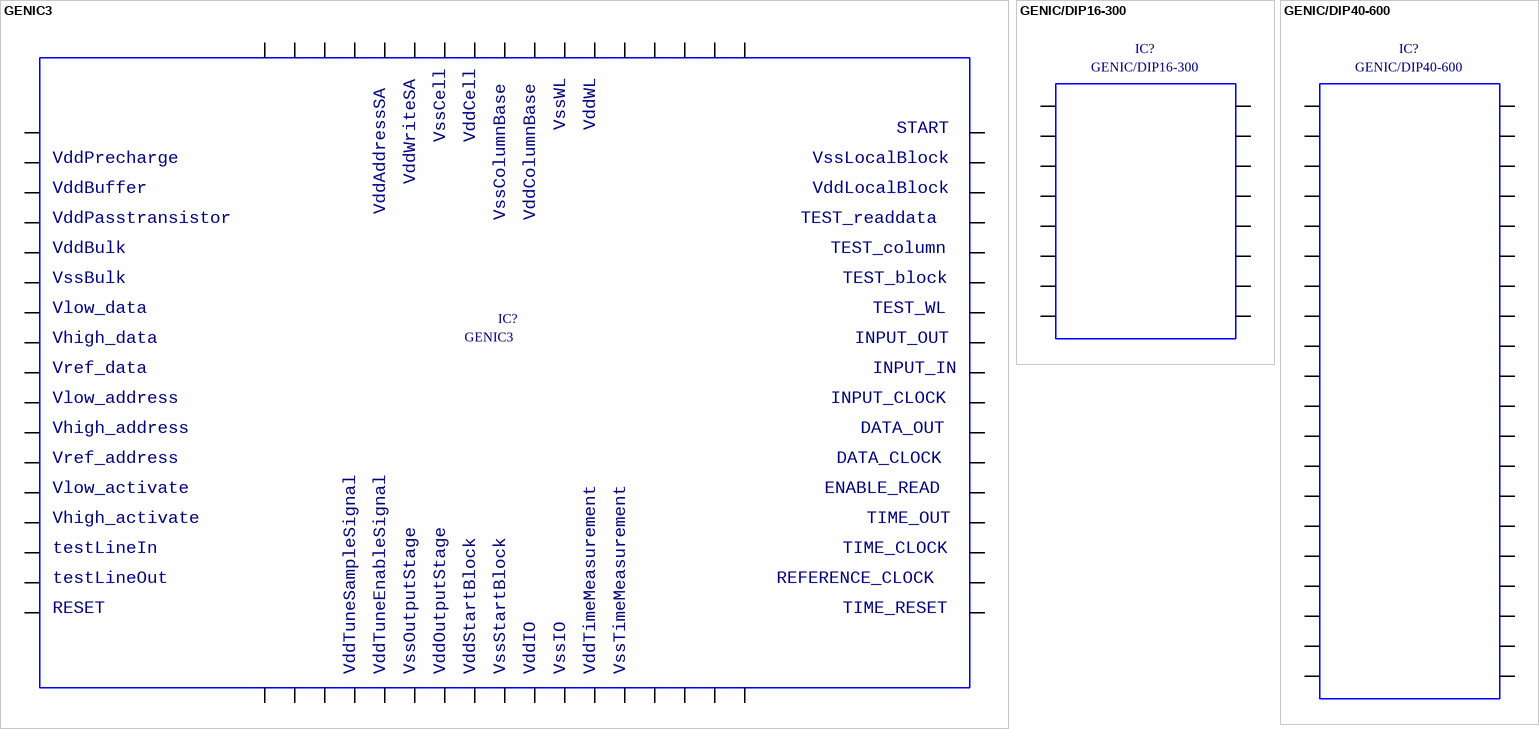
[diagram p201: symbols GENIC3 to GENIC/DIP40-600]

## GENIC3
designator IC?
ref. Stefan Cosemans; Part Number: GENIC3; Component Kind: Standard; Component Type: Standard; Designator: GENIC3; Footprint: icv LCC/.1/68 (3M); Library Reference: GENIC3; Pin Count: 68
footprint icv LCC/.1/68 (3M)
pins: 1, 2, 3, 4, 5, 6, 7, 8, 9, 10, 11, 12, 13, 14, 15, 16, 17, 18, 19, 20, 21, 22, 23, 24, 25, 26, 27, 28, 29, 30, 31, 32, 33, 34, 35, 36, 37, 38, 39, 40, 41, 42, 43, 44, 45, 46, 47, 48, 49, 50, 51, 52, 53, 54, 55, 56, 57, 58, 59, 60, 61, 62, 63, 64, 65, 66, 67, 68
text: VssWL; VddWL; VssCell; VddCell; START; VddPrecharge; VssLocalBlock; VddWriteSA; VddBuffer; VddLocalBlock; VddAddressSA; VssColumnBase; VddColumnBase; VddPasstransistor; TEST_readdata; VddBulk; TEST_column; VssBulk; TEST_block; Vlow_data; TEST_WL; Vhigh_data; INPUT_OUT; Vref_data; INPUT_IN; Vlow_address; INPUT_CLOCK; Vhigh_address; DATA_OUT; Vref_address; DATA_CLOCK; Vlow_activate; ENABLE_READ; Vhigh_activate; TIME_OUT; testLineIn; TIME_CLOCK; testLineOut; REFERENCE_CLOCK; RESET; TIME_RESET; VddTuneSampleSignal; VddTuneEnableSignal; VssOutputStage; VddOutputStage; VddStartBlock; VssStartBlock; VddIO; VssIO; VddTimeMeasurement; VssTimeMeasurement

## GENIC/DIP16-300
designator IC?
Part Number: GENIC/DIP16-300; Component Kind: Standard; Component Type: Standard; Designator: GENIC/DIP16-300; Footprint: icv DIP16-300; Library Reference: GENIC/DIP16-300; Pin Count: 16
footprint icv DIP16-300
pins: 1, 2, 3, 4, 5, 6, 7, 8, 9, 10, 11, 12, 13, 14, 15, 16

## GENIC/DIP40-600
designator IC?
ref. Peter Geens; Part Number: GENIC/DIP40-600; Component Kind: Standard; Component Type: Standard; Designator: GENIC/DIP40-600; Footprint: icv DIP40-600; Library Reference: GENIC/DIP40-600; Pin Count: 40
footprint icv DIP40-600
pins: 1, 2, 3, 4, 5, 6, 7, 8, 9, 10, 11, 12, 13, 14, 15, 16, 17, 18, 19, 20, 21, 22, 23, 24, 25, 26, 27, 28, 29, 30, 31, 32, 33, 34, 35, 36, 37, 38, 39, 40

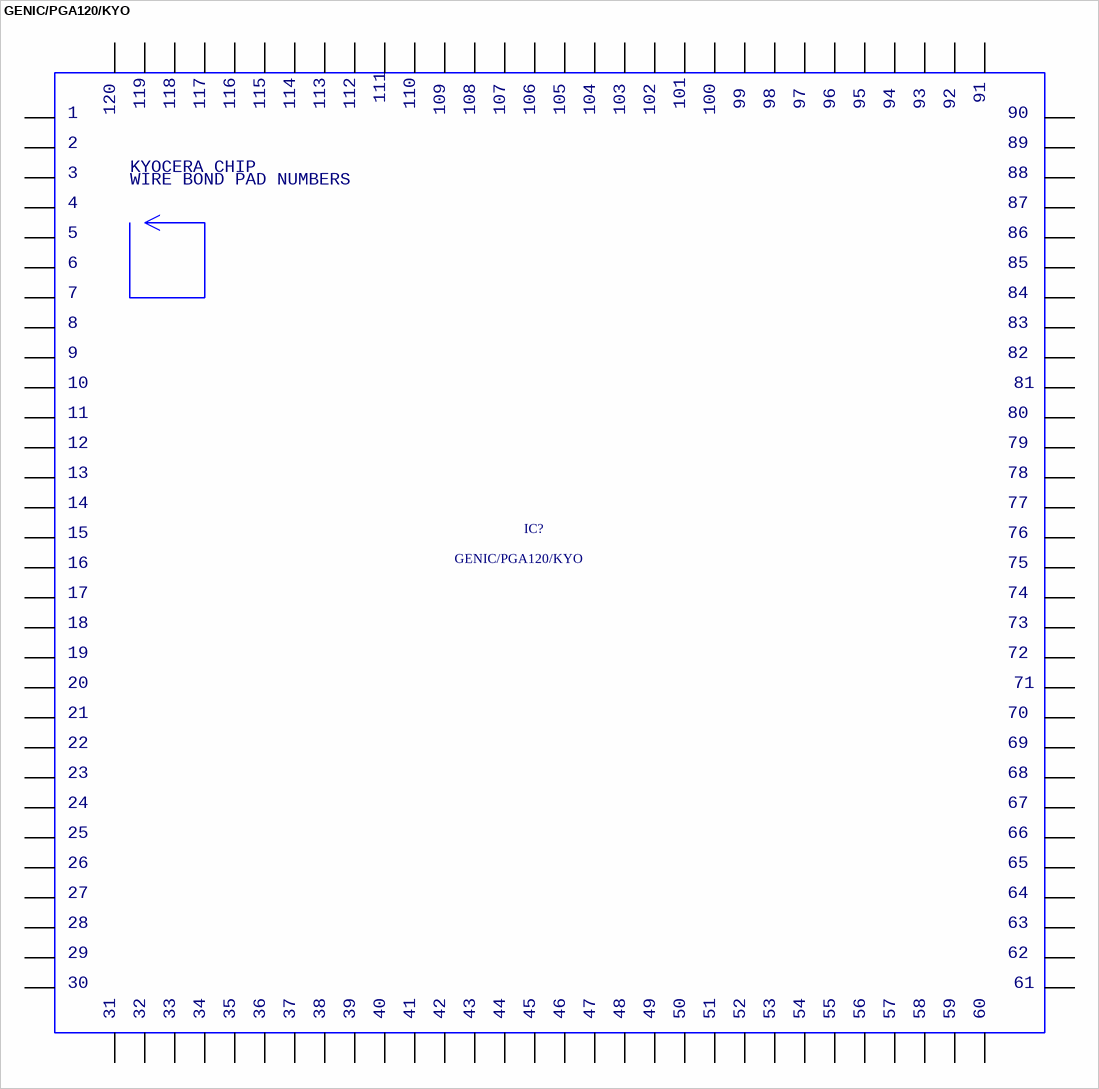
[diagram p202: symbol GENIC/PGA120/KYO]

## GENIC/PGA120/KYO
designator IC?
pga socket 120pin, Kyocera; Part Number: GENIC/PGA120/KYO; Component Kind: Standard; Component Type: Standard; Designator: GENIC/PGA120/KYO; Footprint: icv PGA/.1/120; Library Reference: GENIC/PGA120/KYO; Pin Count: 120
footprint icv PGA/.1/120
pins: 1, 2, 3, 4, 5, 6, 7, 8, 9, 10, 11, 12, 13, 14, 15, 16, 17, 18, 19, 20, 21, 22, 23, 24, 25, 26, 27, 28, 29, 30, 31, 32, 33, 34, 35, 36, 37, 38, 39, 40, 41, 42, 44, 45, 46, 47, 48, 49, 50, 51, 52, 53, 54, 55, 56, 57, 58, 59, 60, 61, 62, 63, 64, 65, 66, 67, 68, 69, 70, 71, 72, 73, 74, 75, 76, 77, 78, 79, 80, 81, 82, 83, 84, 85, 86, 87, 88, 89, 90, 91, 92, 93, 94, 95, 96, 97, 98, 99, 100, 101, 102, 103, 104, 105, 106, 107, 108, 109, 110, 111, 112, 113, 114, 115, 116, 117, 118, 119, 120, 121
text: KYOCERA CHIP; WIRE BOND PAD NUMBERS; 43

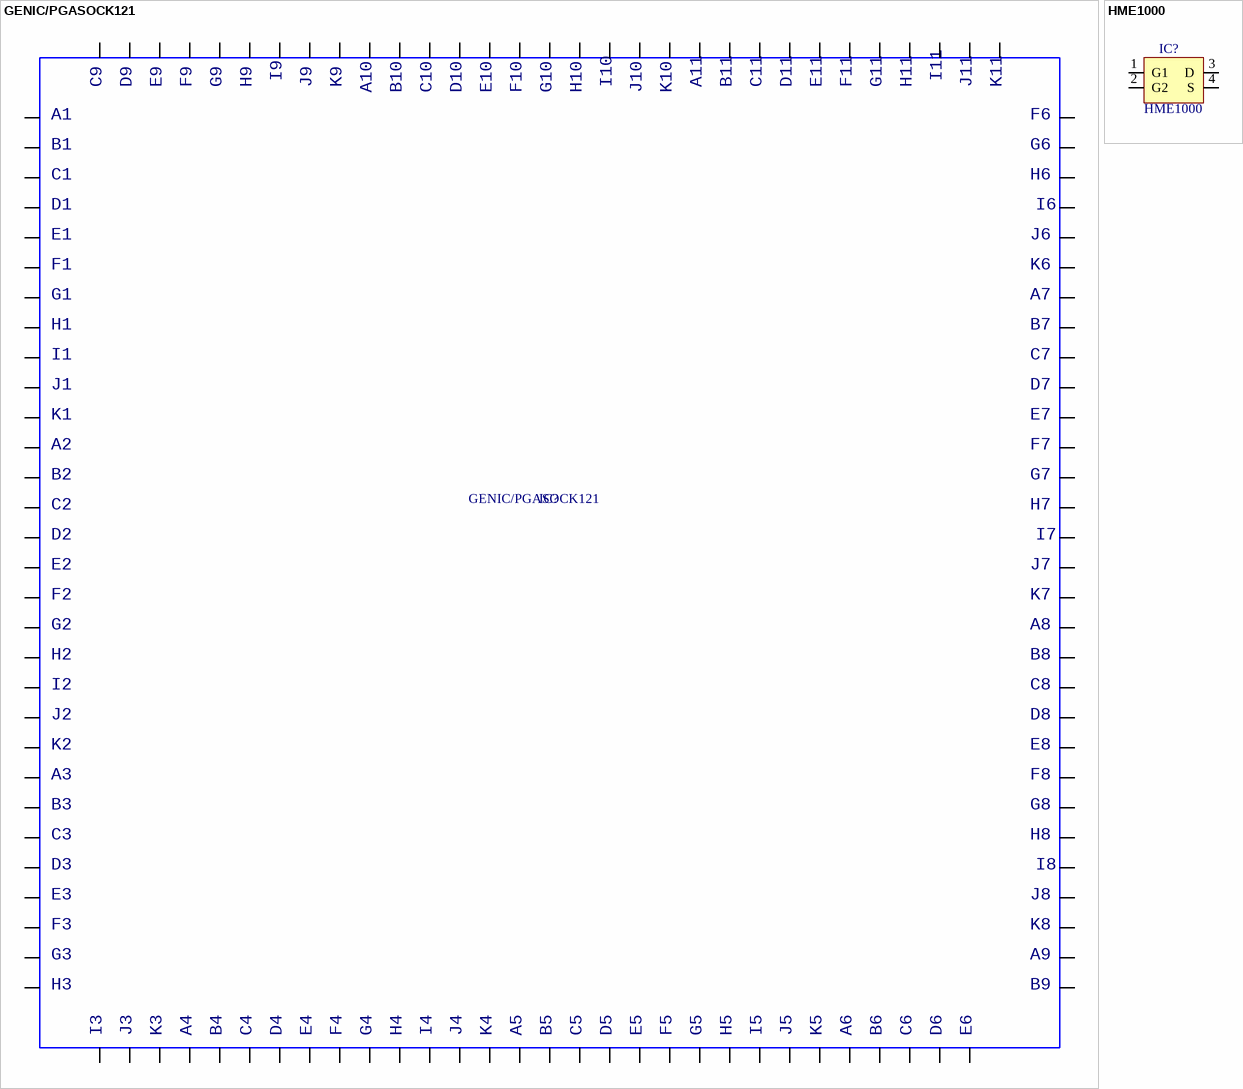
[diagram p203: symbols GENIC/PGASOCK121 to HME1000]

## GENIC/PGASOCK121
designator IC?
zif socket PGA 121pin, Yamaichi NP89 series; Part Number: GENIC/PGASOCK121; Component Kind: Standard; Component Type: Standard; Designator: GENIC/PGASOCK121; Footprint: icv PGA/ZIF/.1/121 (Yamaichi NP89); Library Reference: GENIC/PGASOCK121; Pin Count: 121
footprint icv PGA/ZIF/.1/121 (Yamaichi NP89)
pins: 1, 2, 3, 4, 5, 6, 7, 8, 9, 10, 11, 12, 13, 14, 15, 16, 17, 18, 19, 20, 21, 22, 23, 24, 25, 26, 27, 28, 29, 30, 31, 32, 33, 34, 35, 36, 37, 38, 39, 40, 41, 42, 43, 44, 45, 46, 47, 48, 49, 50, 51, 52, 53, 54, 55, 56, 57, 58, 59, 60, 61, 62, 63, 64, 65, 66, 67, 68, 69, 70, 71, 72, 73, 74, 75, 76, 77, 78, 79, 80, 81, 82, 83, 84, 85, 86, 87, 88, 89, 90, 91, 92, 93, 94, 95, 96, 97, 98, 99, 100, 101, 102, 103, 104, 105, 106, 107, 108, 109, 110, 111, 112, 113, 114, 115, 116, 117, 118, 119, 120, 121
text: I9; I11; C9; D9; E9; F9; G9; H9; J9; K9; I10; A11; B11; C11; D11; E11; F11; G11; H11; J11; K11; A10; B10; C10; D10; E10; F10; G10; H10; J10; K10; A1; F6; B1; G6; C1; H6; D1; I6; E1; J6; F1; K6; G1; A7; H1; B7; I1; C7; J1; D7; K1; E7; A2; F7; B2; G7; C2; H7; D2; I7; E2; J7; F2; K7; G2; A8; H2; B8; I2; C8; J2; D8; K2; E8; A3; F8; B3; G8; C3; H8; D3; I8; E3; J8; F3; K8; G3; A9; H3; B9; I3; J3; K3; A4; B4; C4; D4; E4; F4; G4; H4; I4; J4; K4; A5; B5; C5; D5; E5; F5; G5; H5; I5; J5; K5; A6; B6; C6; D6; E6

## HME1000
designator IC?
ref. Hans Meyvaert
footprint smd HME1000 (Ref. Hans Meyvaert)
pins: 1 G1, 2 G2, 3 D, 4 S

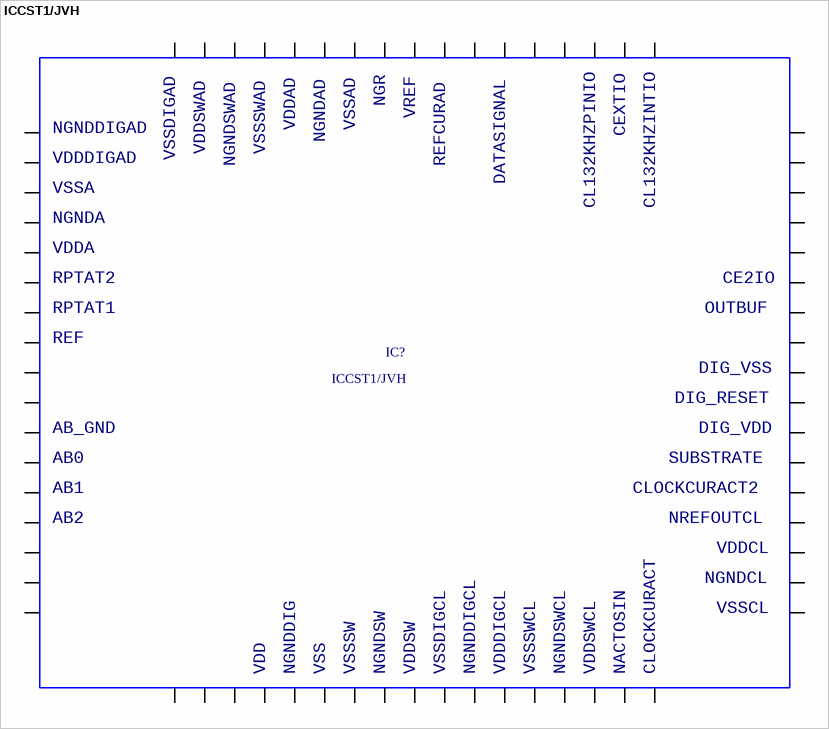
[diagram p204: symbol ICCST1/JVH]

## ICCST1/JVH
designator IC?
ref. Jeroen Van Ham; Part Number: ICCST1/JVH; Component Kind: Standard; Component Type: Standard; Designator: ICCST1/JVH; Footprint: icv PLCC/.1/68; Library Reference: ICCST1/JVH; Pin Count: 68
footprint icv PLCC/.1/68
pins: 1, 2, 3, 4, 5, 6, 7, 8, 9, 10, 11, 12, 13, 14, 15, 16, 17, 18, 19, 20, 21, 22, 23, 24, 25, 26, 27, 28, 29, 30, 31, 32, 33, 34, 35, 36, 37, 38, 39, 40, 41, 42, 43, 44, 45, 46, 47, 48, 49, 50, 51, 52, 53, 54, 55, 56, 57, 58, 59, 60, 61, 62, 63, 64, 65, 66, 67, 68
text: NGR; VREF; VDDAD; VSSAD; NGNDDIGAD; NGNDAD; CEXTIO; VDDSWAD; VSSSWAD; VSSDIGAD; VDDDIGAD; NGNDSWAD; REFCURAD; DATASIGNAL; VSSA; CL132KHZPINIO; CL132KHZINTIO; NGNDA; VDDA; RPTAT2; CE2IO; RPTAT1; OUTBUF; REF; DIG_VSS; DIG_RESET; AB_GND; DIG_VDD; AB0; SUBSTRATE; AB1; CLOCKCURACT2; AB2; NREFOUTCL; VDDCL; NGNDCL; VSSCL; VDD; NGNDDIG; VSS; VSSSW; NGNDSW; VDDSW; VSSDIGCL; NGNDDIGCL; VDDDIGCL; VSSSWCL; NGNDSWCL; VDDSWCL; NACTOSIN; CLOCKCURACT

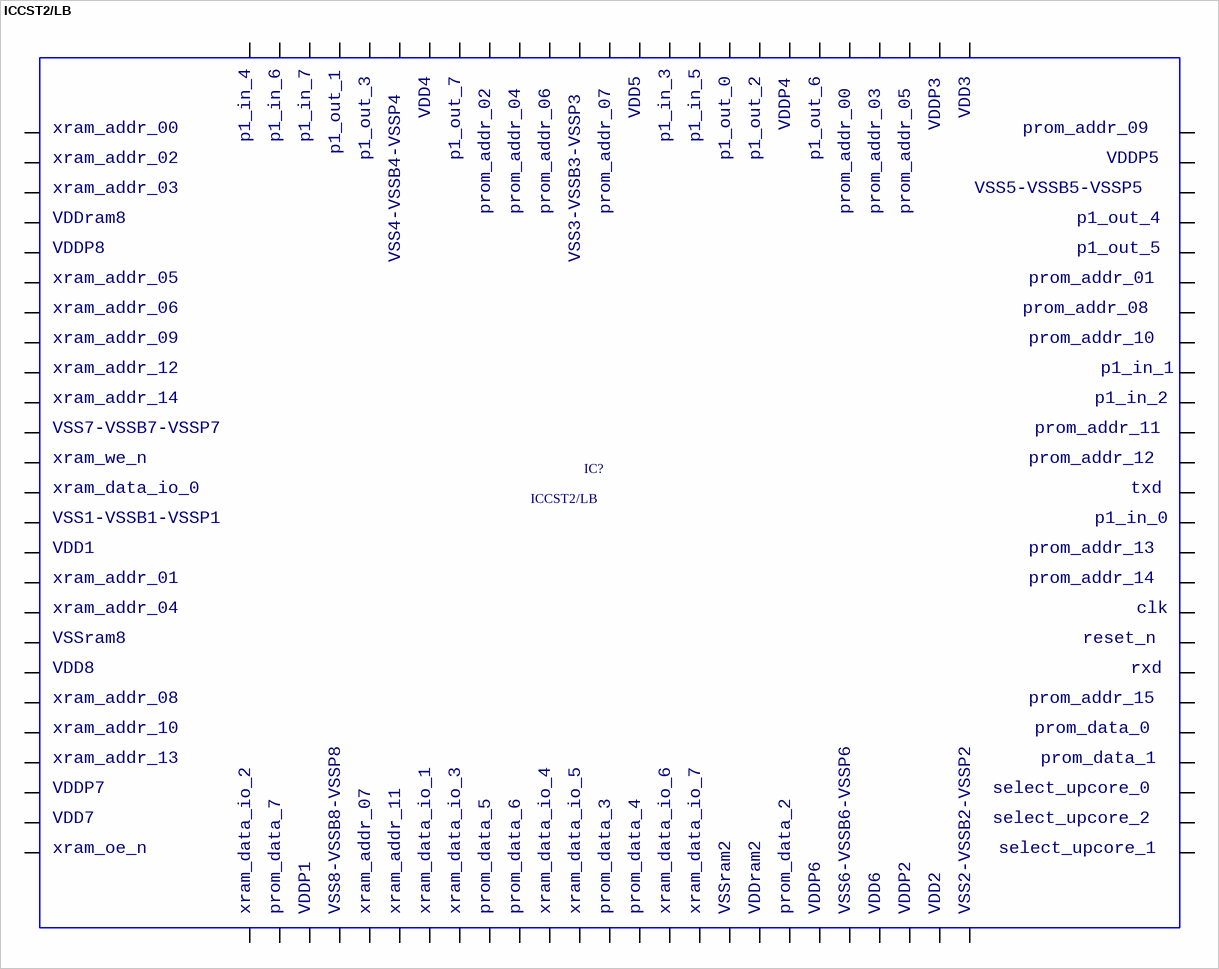
[diagram p205: symbol ICCST2/LB]

## ICCST2/LB
designator IC?
ref. Leijla Batina; Part Number: ICCST2/LB; Component Kind: Standard; Component Type: Standard; Designator: ICCST2/LB; Footprint: icv PGA/.1/101; Library Reference: ICCST2/LB; Pin Count: 100
footprint icv PGA/.1/101
pins: 1, 2, 3, 4, 5, 6, 7, 8, 9, 10, 11, 12, 13, 14, 15, 16, 17, 18, 19, 20, 21, 22, 23, 24, 25, 26, 27, 28, 30, 31, 32, 33, 34, 35, 36, 37, 38, 39, 40, 41, 42, 43, 44, 45, 46, 47, 48, 49, 50, 51, 52, 53, 54, 55, 56, 57, 58, 59, 60, 61, 62, 63, 64, 65, 66, 67, 68, 69, 70, 71, 72, 73, 74, 75, 76, 77, 78, 79, 80, 81, 82, 83, 84, 85, 86, 87, 88, 89, 90, 91, 92, 93, 94, 95, 96, 97, 98, 99, 100, 101
text: VDD4; VDD5; VDD3; VDDP4; VDDP3; xram_addr_00; p1_in_4; p1_in_6; p1_in_7; p1_in_3; p1_in_5; prom_addr_09; p1_out_1; p1_out_3; p1_out_7; p1_out_0; p1_out_2; p1_out_6; xram_addr_02; VDDP5; xram_addr_03; VSS5-VSSB5-VSSP5; prom_addr_02; prom_addr_04; prom_addr_06; prom_addr_07; prom_addr_00; prom_addr_03; prom_addr_05; VDDram8; p1_out_4; VDDP8; VSS4-VSSB4-VSSP4; VSS3-VSSB3-VSSP3; p1_out_5; xram_addr_05; prom_addr_01; xram_addr_06; prom_addr_08; xram_addr_09; prom_addr_10; xram_addr_12; p1_in_1; xram_addr_14; p1_in_2; VSS7-VSSB7-VSSP7; prom_addr_11; xram_we_n; prom_addr_12; xram_data_io_0; txd; VSS1-VSSB1-VSSP1; p1_in_0; VDD1; prom_addr_13; xram_addr_01; prom_addr_14; xram_addr_04; clk; VSSram8; reset_n; VDD8; rxd; xram_addr_08; prom_addr_15; xram_addr_10; prom_data_0; xram_addr_13; prom_data_1; VDDP7; select_upcore_0; VDD7; select_upcore_2; xram_oe_n; select_upcore_1; xram_data_io_2; prom_data_7; VDDP1; VSS8-VSSB8-VSSP8; xram_addr_07; xram_addr_11; xram_data_io_1; xram_data_io_3; prom_data_5; prom_data_6; xram_data_io_4; xram_data_io_5; prom_data_3; prom_data_4; xram_data_io_6; xram_data_io_7; VSSram2; VDDram2; prom_data_2; VDDP6; VSS6-VSSB6-VSSP6; VDD6; VDDP2; VDD2; VSS2-VSSB2-VSSP2

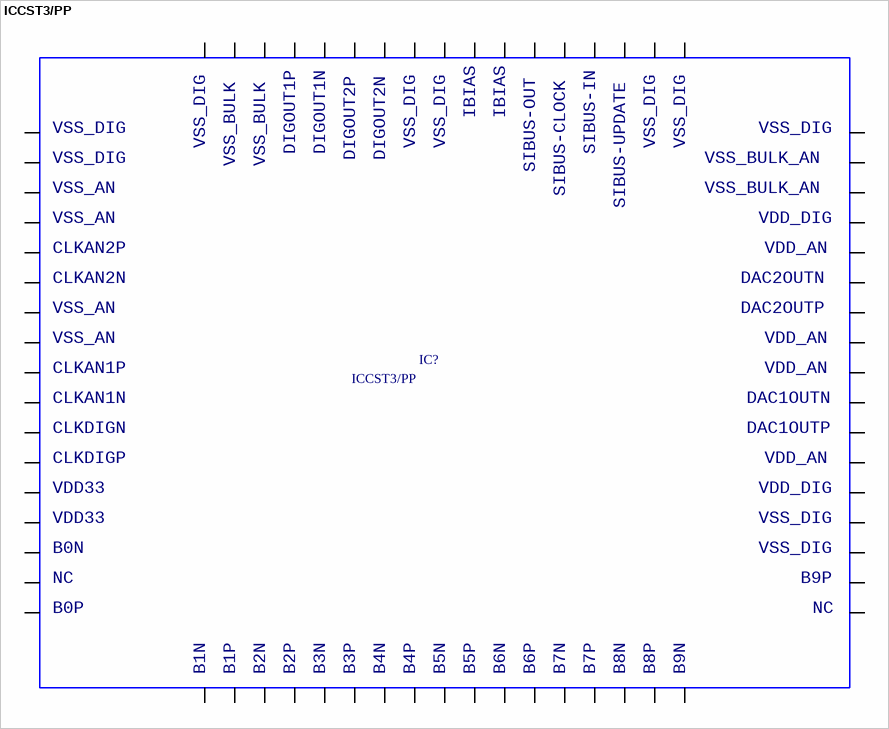
[diagram p206: symbol ICCST3/PP]

## ICCST3/PP
designator IC?
ref. Pieter Palmers; Part Number: ICCST3/PP; Component Kind: Standard; Component Type: Standard; Designator: ICCST3/PP; Footprint: icv PLCC/ZIF/68 (Wells-Cti); Library Reference: ICCST3/PP; Pin Count: 68
footprint icv PLCC/ZIF/68 (Wells-Cti)
pins: 1, 2, 3, 4, 5, 6, 7, 8, 9, 10, 11, 12, 13, 14, 15, 16, 17, 18, 19, 20, 21, 22, 23, 24, 25, 26, 27, 28, 29, 30, 31, 32, 33, 34, 35, 36, 37, 38, 39, 40, 41, 42, 43, 44, 45, 46, 47, 48, 49, 50, 51, 52, 53, 54, 55, 56, 57, 58, 59, 60, 61, 62, 63, 64, 65, 66, 67, 68
text: IBIAS; VSS_DIG; DIGOUT1P; DIGOUT1N; SIBUS-IN; DIGOUT2P; DIGOUT2N; VSS_BULK; SIBUS-OUT; VSS_BULK_AN; VSS_AN; SIBUS-CLOCK; SIBUS-UPDATE; VDD_DIG; CLKAN2P; VDD_AN; CLKAN2N; DAC2OUTN; DAC2OUTP; CLKAN1P; CLKAN1N; DAC1OUTN; CLKDIGN; DAC1OUTP; CLKDIGP; VDD33; B0N; NC; B9P; B0P; B1N; B1P; B2N; B2P; B3N; B3P; B4N; B4P; B5N; B5P; B6N; B6P; B7N; B7P; B8N; B8P; B9N

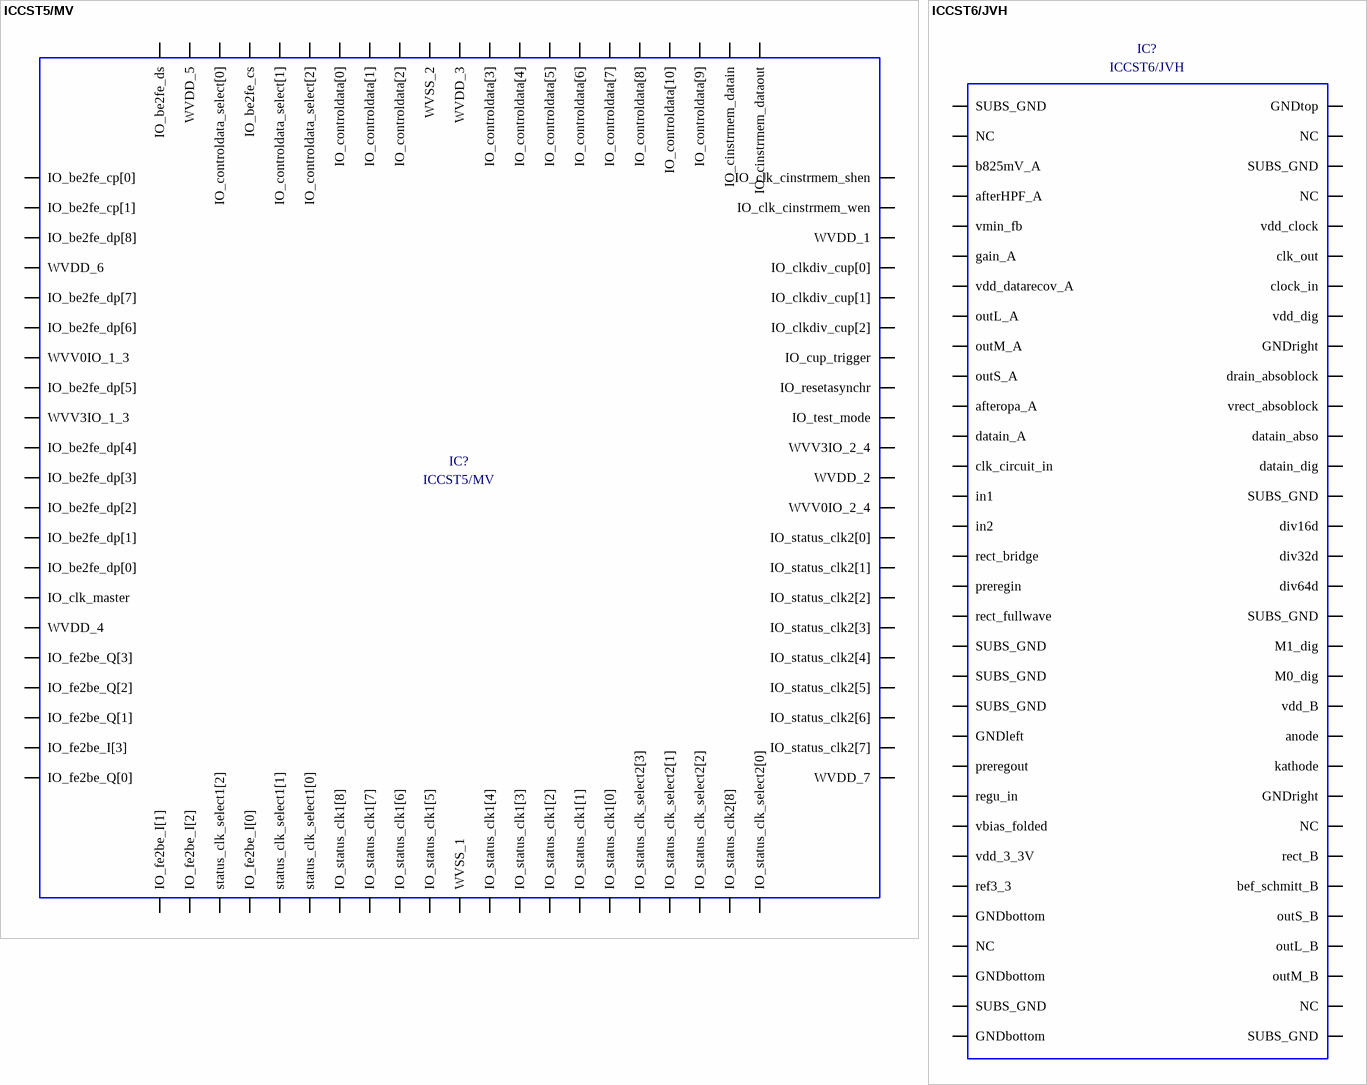
[diagram p207: symbols ICCST5/MV to ICCST6/JVH]

## ICCST5/MV
designator IC?
ref. Marian Verhelst; Part Number: ICCST5/MV; Component Kind: Standard; Component Type: Standard; Designator: ICCST5/MV; Footprint: smd LCC/84 (socket); Library Reference: ICCST5/MV; Pin Count: 84
footprint smd LCC/84 (socket)
pins: 1 WVSS_1, 2 IO_status_clk1[4], 3 IO_status_clk1[3], 4 IO_status_clk1[2], 5 IO_status_clk1[1], 6 IO_status_clk1[0], 7 IO_status_clk_select2[3], 8 IO_status_clk_select2[1], 9 IO_status_clk_select2[2], 10 IO_status_clk2[8], 11 IO_status_clk_select2[0], 12 WVDD_7, 13 IO_status_clk2[7], 14 IO_status_clk2[6], 15 IO_status_clk2[5], 16 IO_status_clk2[4], 17 IO_status_clk2[3], 18 IO_status_clk2[2], 19 IO_status_clk2[1], 20 IO_status_clk2[0], 21 WVV0IO_2_4, 22 WVDD_2, 23 WVV3IO_2_4, 24 IO_test_mode, 25 IO_resetasynchr, 26 IO_cup_trigger, 27 IO_clkdiv_cup[2], 28 IO_clkdiv_cup[1], 29 IO_clkdiv_cup[0], 30 WVDD_1, 31 IO_clk_cinstrmem_wen, 32 IO_clk_cinstrmem_shen, 33 IO_cinstrmem_dataout, 34 IO_cinstrmem_datain, 35 IO_controldata[9], 36 IO_controldata[10], 37 IO_controldata[8], 38 IO_controldata[7], 39 IO_controldata[6], 40 IO_controldata[5], 41 IO_controldata[4], 42 IO_controldata[3], 43 WVDD_3, 44 WVSS_2, 45 IO_controldata[2], 46 IO_controldata[1], 47 IO_controldata[0], 48 IO_controldata_select[2], 49 IO_controldata_select[1], 50 IO_be2fe_cs, 51 IO_controldata_select[0], 52 WVDD_5, 53 IO_be2fe_ds, 54 IO_be2fe_cp[0], 55 IO_be2fe_cp[1], 56 IO_be2fe_dp[8], 57 WVDD_6, 58 IO_be2fe_dp[7], 59 IO_be2fe_dp[6], 60 WVV0IO_1_3, 61 IO_be2fe_dp[5], 62 WVV3IO_1_3, 63 IO_be2fe_dp[4], 64 IO_be2fe_dp[3], 65 IO_be2fe_dp[2], 66 IO_be2fe_dp[1], 67 IO_be2fe_dp[0], 68 IO_clk_master, 69 WVDD_4, 70 IO_fe2be_Q[3], 71 IO_fe2be_Q[2], 72 IO_fe2be_Q[1], 73 IO_fe2be_I[3], 74 IO_fe2be_Q[0], 75 IO_fe2be_I[1], 76 IO_fe2be_I[2], 77 status_clk_select1[2], 78 IO_fe2be_I[0], 79 status_clk_select1[1], 80 status_clk_select1[0], 81 IO_status_clk1[8], 82 IO_status_clk1[7], 83 IO_status_clk1[6], 84 IO_status_clk1[5]

## ICCST6/JVH
designator IC?
ref. Jeroen Van Ham; Part Number: ICCST6/JVH; Component Kind: Standard; Component Type: Standard; Designator: ICCST6/JVH; Footprint: icv DIP64-900 (2x 3MTextool zif sil32p); Library Reference: ICCST6/JVH; Pin Count: 64
footprint icv DIP64-900 (2x 3MTextool zif sil32p)
pins: 1 SUBS_GND, 2 NC, 3 b825mV_A, 4 afterHPF_A, 5 vmin_fb, 6 gain_A, 7 vdd_datarecov_A, 8 outL_A, 9 outM_A, 10 outS_A, 11 afteropa_A, 12 datain_A, 13 clk_circuit_in, 14 in1, 15 in2, 16 rect_bridge, 17 preregin, 18 rect_fullwave, 19 SUBS_GND, 20 SUBS_GND, 21 SUBS_GND, 22 GNDleft, 23 preregout, 24 regu_in, 25 vbias_folded, 26 vdd_3_3V, 27 ref3_3, 28 GNDbottom, 29 NC, 30 GNDbottom, 31 SUBS_GND, 32 GNDbottom, 33 SUBS_GND, 34 NC, 35 outM_B, 36 outL_B, 37 outS_B, 38 bef_schmitt_B, 39 rect_B, 40 NC, 41 GNDright, 42 kathode, 43 anode, 44 vdd_B, 45 M0_dig, 46 M1_dig, 47 SUBS_GND, 48 div64d, 49 div32d, 50 div16d, 51 SUBS_GND, 52 datain_dig, 53 datain_abso, 54 vrect_absoblock, 55 drain_absoblock, 56 GNDright, 57 vdd_dig, 58 clock_in, 59 clk_out, 60 vdd_clock, 61 NC, 62 SUBS_GND, 63 NC, 64 GNDtop

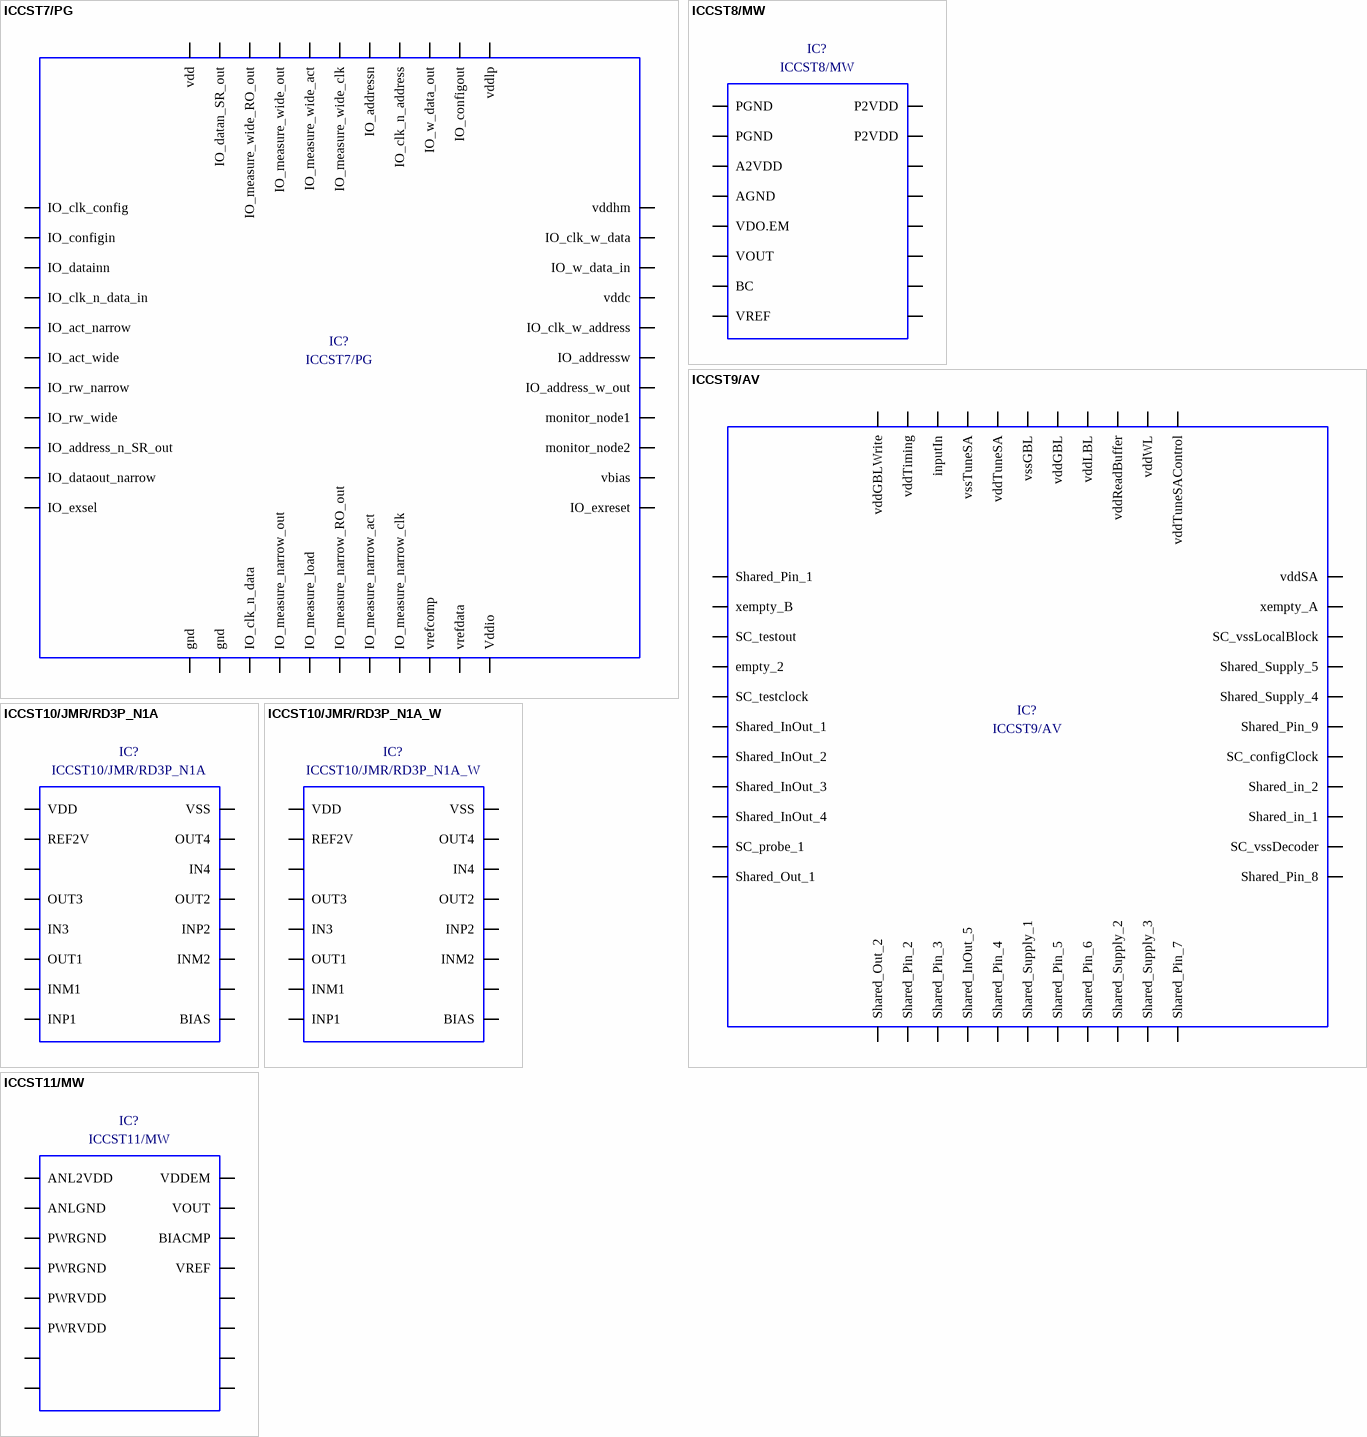
[diagram p208: symbols ICCST7/PG to ICCST11/MW]

## ICCST7/PG
designator IC?
ref. Peter Geens; Part Number: ICCST7/PG; Component Kind: Standard; Component Type: Standard; Designator: ICCST7/PG; Footprint: icv LCC/.1/44 (Yamaichi IC530444306); Library Reference: ICCST7/PG; Pin Count: 44
footprint icv LCC/.1/44 (Yamaichi IC530444306)
pins: 1 IO_measure_wide_clk, 2 IO_measure_wide_act, 3 IO_measure_wide_out, 4 IO_measure_wide_RO_out, 5 IO_datan_SR_out, 6 vdd, 7 IO_clk_config, 8 IO_configin, 9 IO_datainn, 10 IO_clk_n_data_in, 11 IO_act_narrow, 12 IO_act_wide, 13 IO_rw_narrow, 14 IO_rw_wide, 15 IO_address_n_SR_out, 16 IO_dataout_narrow, 17 IO_exsel, 18 gnd, 19 gnd, 20 IO_clk_n_data, 21 IO_measure_narrow_out, 22 IO_measure_load, 23 IO_measure_narrow_RO_out, 24 IO_measure_narrow_act, 25 IO_measure_narrow_clk, 26 vrefcomp, 27 vrefdata, 28 Vddio, 29 IO_exreset, 30 vbias, 31 monitor_node2, 32 monitor_node1, 33 IO_address_w_out, 34 IO_addressw, 35 IO_clk_w_address, 36 vddc, 37 IO_w_data_in, 38 IO_clk_w_data, 39 vddhm, 40 vddlp, 41 IO_configout, 42 IO_w_data_out, 43 IO_clk_n_address, 44 IO_addressn

## ICCST8/MW
designator IC?
ref. Mike Wens; Part Number: ICCST8/MW; Component Kind: Standard; Component Type: Standard; Designator: ICCST8/MW; Footprint: icv DIP16-300; Library Reference: ICCST8/MW; Pin Count: 16
footprint icv DIP16-300
pins: 1 PGND, 2 PGND, 3 A2VDD, 4 AGND, 5 VDO.EM, 6 VOUT, 7 BC, 8 VREF, 9, 10, 11, 12, 13, 14, 15 P2VDD, 16 P2VDD

## ICCST9/AV
designator IC?
ref. Anselme Vignon; Part Number: ICCST9/AV; Component Kind: Standard; Component Type: Standard; Designator: ICCST9/AV; Footprint: icv LCC/.1/44 (Yamaichi IC530444306); Library Reference: ICCST9/AV; Pin Count: 44
footprint icv LCC/.1/44 (Yamaichi IC530444306)
pins: 1 vssGBL, 2 vddTuneSA, 3 vssTuneSA, 4 inputIn, 5 vddTiming, 6 vddGBLWrite, 7 Shared_Pin_1, 8 xempty_B, 9 SC_testout, 10 empty_2, 11 SC_testclock, 12 Shared_InOut_1, 13 Shared_InOut_2, 14 Shared_InOut_3, 15 Shared_InOut_4, 16 SC_probe_1, 17 Shared_Out_1, 18 Shared_Out_2, 19 Shared_Pin_2, 20 Shared_Pin_3, 21 Shared_InOut_5, 22 Shared_Pin_4, 23 Shared_Supply_1, 24 Shared_Pin_5, 25 Shared_Pin_6, 26 Shared_Supply_2, 27 Shared_Supply_3, 28 Shared_Pin_7, 29 Shared_Pin_8, 30 SC_vssDecoder, 31 Shared_in_1, 32 Shared_in_2, 33 SC_configClock, 34 Shared_Pin_9, 35 Shared_Supply_4, 36 Shared_Supply_5, 37 SC_vssLocalBlock, 38 xempty_A, 39 vddSA, 40 vddTuneSAControl, 41 vddWL, 42 vddReadBuffer, 43 vddLBL, 44 vddGBL

## ICCST10/JMR/RD3P_N1A
designator IC?
ref. Jean-Michel Redouté; Part Number: ICCST10/JMR/RD3P_N1A; Component Kind: Standard; Component Type: Standard; Designator: ICCST10/JMR/RD3P_N1A; Footprint: smd SOICN/16; Library Reference: ICCST10/JMR/RD3P_N1A; Pin Count: 16
footprint smd SOICN/16
pins: 1 VDD, 2 REF2V, 3, 4 OUT3, 5 IN3, 6 OUT1, 7 INM1, 8 INP1, 9 BIAS, 10, 11 INM2, 12 INP2, 13 OUT2, 14 IN4, 15 OUT4, 16 VSS

## ICCST10/JMR/RD3P_N1A_W
designator IC?
ref. Jean-Michel Redouté; Part Number: ICCST10/JMR/RD3P_N1A_W; Component Kind: Standard; Component Type: Standard; Designator: ICCST10/JMR/RD3P_N1A_W; Footprint: smd SOICW/16; Library Reference: ICCST10/JMR/RD3P_N1A_W; Pin Count: 16
footprint smd SOICW/16
pins: 1 VDD, 2 REF2V, 3, 4 OUT3, 5 IN3, 6 OUT1, 7 INM1, 8 INP1, 9 BIAS, 10, 11 INM2, 12 INP2, 13 OUT2, 14 IN4, 15 OUT4, 16 VSS

## ICCST11/MW
designator IC?
ref. Mike Wens; Part Number: ICCST11/MW; Component Kind: Standard; Component Type: Standard; Designator: ICCST11/MW; Footprint: icv DIP16-300; Library Reference: ICCST11/MW; Pin Count: 16
footprint icv DIP16-300
pins: 1 ANL2VDD, 2 ANLGND, 3 PWRGND, 4 PWRGND, 5 PWRVDD, 6 PWRVDD, 7, 8, 9, 10, 11, 12, 13 VREF, 14 BIACMP, 15 VOUT, 16 VDDEM

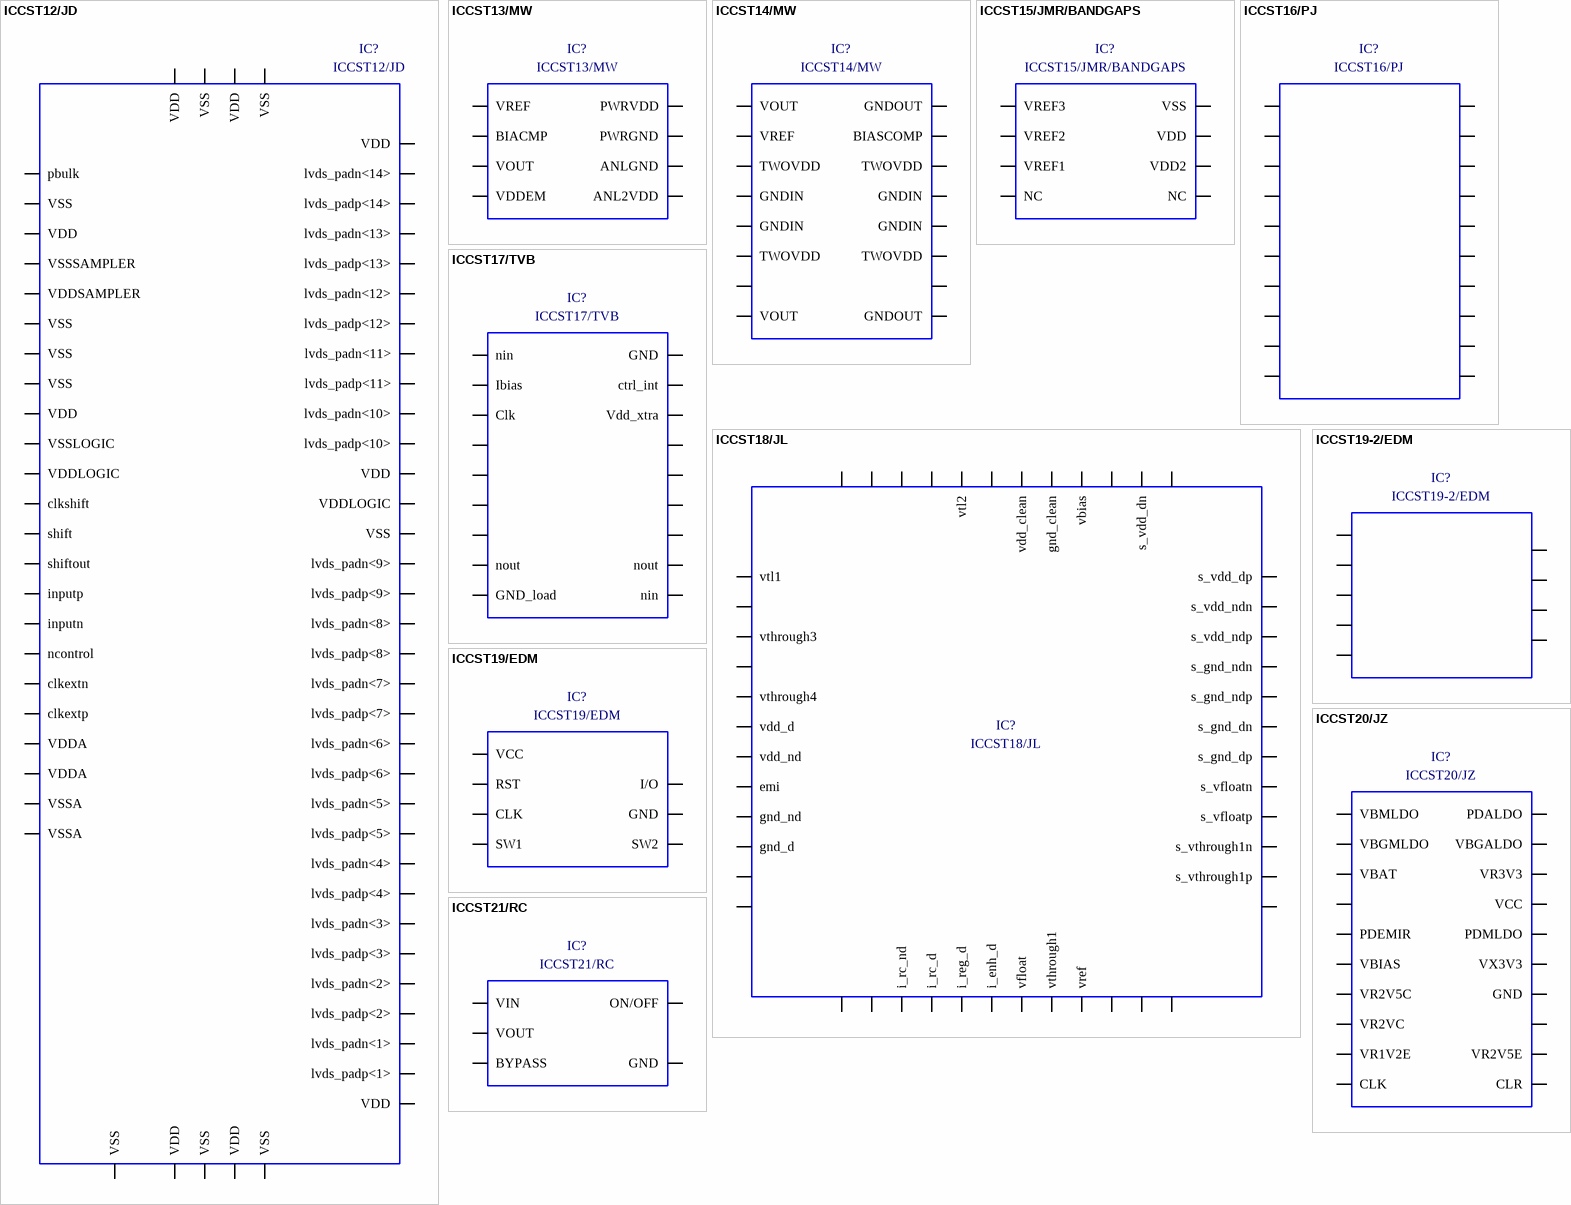
[diagram p209: symbols ICCST12/JD to ICCST21/RC]

## ICCST12/JD
designator IC?
ref. Jorg Daniels; Part Number: ICCST12/JD; Component Kind: Standard; Component Type: Standard; Designator: ICCST12/JD; Footprint: smd ICCST12; Library Reference: ICCST12/JD; Pin Count: 65
footprint smd ICCST12
pins: 1 pbulk, 2 VSS, 3 VDD, 4 VSSSAMPLER, 5 VDDSAMPLER, 6 VSS, 7 VSS, 8 VSS, 9 VDD, 10 VSSLOGIC, 11 VDDLOGIC, 12 clkshift, 13 shift, 14 shiftout, 15 inputp, 16 inputn, 17 ncontrol, 18 clkextn, 19 clkextp, 20 VDDA, 21 VDDA, 22 VSSA, 23 VSSA, 24 VSS, 25 VDD, 26 VSS, 27 VDD, 28 VSS, 29 VDD, 30 lvds_padp<1>, 31 lvds_padn<1>, 32 lvds_padp<2>, 33 lvds_padn<2>, 34 lvds_padp<3>, 35 lvds_padn<3>, 36 lvds_padp<4>, 37 lvds_padn<4>, 38 lvds_padp<5>, 39 lvds_padn<5>, 40 lvds_padp<6>, 41 lvds_padn<6>, 42 lvds_padp<7>, 43 lvds_padn<7>, 44 lvds_padp<8>, 45 lvds_padn<8>, 46 lvds_padp<9>, 47 lvds_padn<9>, 48 VSS, 49 VDDLOGIC, 50 VDD, 51 lvds_padp<10>, 52 lvds_padn<10>, 53 lvds_padp<11>, 54 lvds_padn<11>, 55 lvds_padp<12>, 56 lvds_padn<12>, 57 lvds_padp<13>, 58 lvds_padn<13>, 59 lvds_padp<14>, 60 lvds_padn<14>, 61 VDD, 62 VSS, 63 VDD, 64 VSS, 65 VDD

## ICCST13/MW
designator IC?
ref. Mike Wens; Part Number: ICCST13/MW; Component Kind: Standard; Component Type: Standard; Designator: ICCST13/MW; Footprint: smd ICCST13; Library Reference: ICCST13/MW; Pin Count: 8
footprint smd ICCST13
pins: 1 VREF, 2 BIACMP, 3 VOUT, 4 VDDEM, 5 ANL2VDD, 6 ANLGND, 7 PWRGND, 8 PWRVDD

## ICCST14/MW
designator IC?
ref. Mike Wens; Part Number: ICCST14/MW; Component Kind: Standard; Component Type: Standard; Designator: ICCST14/MW; Footprint: icv DIP16-300; Library Reference: ICCST14/MW; Pin Count: 16
footprint icv DIP16-300
pins: 1 VOUT, 2 VREF, 3 TWOVDD, 4 GNDIN, 5 GNDIN, 6 TWOVDD, 7, 8 VOUT, 9 GNDOUT, 10, 11 TWOVDD, 12 GNDIN, 13 GNDIN, 14 TWOVDD, 15 BIASCOMP, 16 GNDOUT

## ICCST15/JMR/BANDGAPS
designator IC?
ref. Jean-Michel Redouté; Part Number: ICCST15/JMR/BANDGAPS; Component Kind: Standard; Component Type: Standard; Designator: ICCST15/JMR/BANDGAPS; Footprint: smd SOICN/8; Library Reference: ICCST15/JMR/BANDGAPS; Pin Count: 8
footprint smd SOICN/8
pins: 1 VREF3, 2 VREF2, 3 VREF1, 4 NC, 5 NC, 6 VDD2, 7 VDD, 8 VSS

## ICCST16/PJ
designator IC?
ref. Philippe Jourand; Part Number: ICCST16/PJ; Component Kind: Standard; Component Type: Standard; Designator: ICCST16/PJ; Footprint: icv SOP/ZIF/20 (Wells-Cti); Library Reference: ICCST16/PJ; Pin Count: 20
footprint icv SOP/ZIF/20 (Wells-Cti)
pins: 1, 2, 3, 4, 5, 6, 7, 8, 9, 10, 11, 12, 13, 14, 15, 16, 17, 18, 19, 20

## ICCST17/TVB
designator IC?
ref. Tom Van Breussegem; Part Number: ICCST17/TVB; Component Kind: Standard; Component Type: Standard; Designator: ICCST17/TVB; Footprint: icv DIP18-300 (3M Textool zif); Library Reference: ICCST17/TVB; Pin Count: 18
footprint icv DIP18-300 (3M Textool zif)
pins: 1 nin, 2 Ibias, 3 Clk, 4, 5, 6, 7, 8 nout, 9 GND_load, 10 nin, 11 nout, 12, 13, 14, 15, 16 Vdd_xtra, 17 ctrl_int, 18 GND

## ICCST18/JL
designator IC?
ref. Johan Loeckx; Part Number: ICCST18/JL; Component Kind: Standard; Component Type: Standard; Designator: ICCST18/JL; Footprint: smd TQFP/48; Library Reference: ICCST18/JL; Pin Count: 48
footprint smd TQFP/48
pins: 1 vtl1, 2, 3 vthrough3, 4, 5 vthrough4, 6 vdd_d, 7 vdd_nd, 8 emi, 9 gnd_nd, 10 gnd_d, 11, 12, 13, 14, 15 i_rc_nd, 16 i_rc_d, 17 i_reg_d, 18 i_enh_d, 19 vfloat, 20 vthrough1, 21 vref, 22, 23, 24, 25, 26 s_vthrough1p, 27 s_vthrough1n, 28 s_vfloatp, 29 s_vfloatn, 30 s_gnd_dp, 31 s_gnd_dn, 32 s_gnd_ndp, 33 s_gnd_ndn, 34 s_vdd_ndp, 35 s_vdd_ndn, 36 s_vdd_dp, 37, 38 s_vdd_dn, 39, 40 vbias, 41 gnd_clean, 42 vdd_clean, 43, 44 vtl2, 45, 46, 47, 48

## ICCST19-2/EDM
designator IC?
ref. Elke Demulder; Part Number: ICCST19-2/EDM; Component Kind: Standard; Component Type: Standard; Designator: ICCST19-2/EDM; Footprint: icv ICCST19-2; Library Reference: ICCST19-2/EDM; Pin Count: 9
footprint icv ICCST19-2
pins: 1, 2, 3, 4, 5, 6, 7, 8, 9

## ICCST19/EDM
designator IC?
ref. Elke De Mulder; Part Number: ICCST19/EDM; Component Kind: Standard; Component Type: Standard; Designator: ICCST19/EDM; Footprint: icv ICCST19; Library Reference: ICCST19/EDM; Pin Count: 7
footprint icv ICCST19
pins: 1 VCC, 2 RST, 3 CLK, 4 SW1, 5 SW2, 6 GND, 7 I/O

## ICCST20/JZ
designator IC?
ref. Junfeng Zhou; Part Number: ICCST20/JZ; Component Kind: Standard; Component Type: Standard; Designator: ICCST20/JZ; Footprint: smd SOICW/20; Library Reference: ICCST20/JZ; Pin Count: 20
footprint smd SOICW/20
pins: 1 VBMLDO, 2 VBGMLDO, 3 VBAT, 4, 5 PDEMIR, 6 VBIAS, 7 VR2V5C, 8 VR2VC, 9 VR1V2E, 10 CLK, 11 CLR, 12 VR2V5E, 13, 14 GND, 15 VX3V3, 16 PDMLDO, 17 VCC, 18 VR3V3, 19 VBGALDO, 20 PDALDO

## ICCST21/RC
designator IC?
ref. Riccardo Carta; Part Number: ICCST21/RC; Component Kind: Standard; Component Type: Standard; Designator: ICCST21/RC; Footprint: smd ICCST21; Library Reference: ICCST21/RC; Pin Count: 5
footprint smd ICCST21
pins: 1 VIN, 2 VOUT, 3 BYPASS, 4 GND, 5 ON/OFF

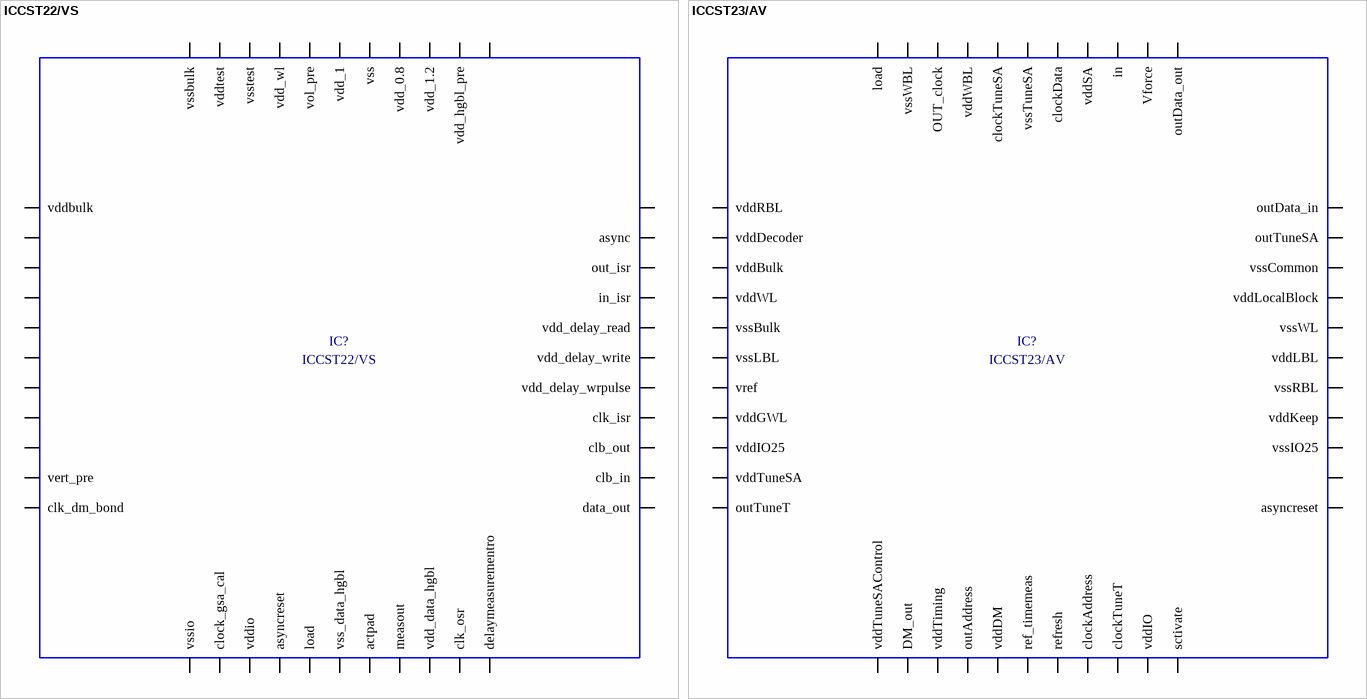
[diagram p210: symbols ICCST22/VS to ICCST23/AV]

## ICCST22/VS
designator IC?
ref. Vibhu Sharma; Part Number: ICCST22/VS; Component Kind: Standard; Component Type: Standard; Designator: ICCST22/VS; Footprint: icv LCC/.1/44 (Yamaichi IC530444306); Library Reference: ICCST22/VS; Pin Count: 44
footprint icv LCC/.1/44 (Yamaichi IC530444306)
pins: 1 vdd_1, 2 vol_pre, 3 vdd_wl, 4 vsstest, 5 vddtest, 6 vssbulk, 7 vddbulk, 8, 9, 10, 11, 12, 13, 14, 15, 16 vert_pre, 17 clk_dm_bond, 18 vssio, 19 clock_gsa_cal, 20 vddio, 21 asyncreset, 22 load, 23 vss_data_hgbl, 24 actpad, 25 measout, 26 vdd_data_hgbl, 27 clk_osr, 28 delaymeasurementro, 29 data_out, 30 clb_in, 31 clb_out, 32 clk_isr, 33 vdd_delay_wrpulse, 34 vdd_delay_write, 35 vdd_delay_read, 36 in_isr, 37 out_isr, 38 async, 39, 40, 41 vdd_hgbl_pre, 42 vdd_1.2, 43 vdd_0.8, 44 vss

## ICCST23/AV
designator IC?
ref. Anselme Vignon; Part Number: ICCST23/AV; Component Kind: Standard; Component Type: Standard; Designator: ICCST23/AV; Footprint: icv LCC/.1/44 (Yamaichi IC530444306); Library Reference: ICCST23/AV; Pin Count: 44
footprint icv LCC/.1/44 (Yamaichi IC530444306)
pins: 1 vssTuneSA, 2 clockTuneSA, 3 vddWBL, 4 OUT_clock, 5 vssWBL, 6 load, 7 vddRBL, 8 vddDecoder, 9 vddBulk, 10 vddWL, 11 vssBulk, 12 vssLBL, 13 vref, 14 vddGWL, 15 vddIO25, 16 vddTuneSA, 17 outTuneT, 18 vddTuneSAControl, 19 DM_out, 20 vddTiming, 21 outAddress, 22 vddDM, 23 ref_timemeas, 24 refresh, 25 clockAddress, 26 clockTuneT, 27 vddIO, 28 sctivate, 29 asyncreset, 30, 31 vssIO25, 32 vddKeep, 33 vssRBL, 34 vddLBL, 35 vssWL, 36 vddLocalBlock, 37 vssCommon, 38 outTuneSA, 39 outData_in, 40 outData_out, 41 Vforce, 42 in, 43 vddSA, 44 clockData

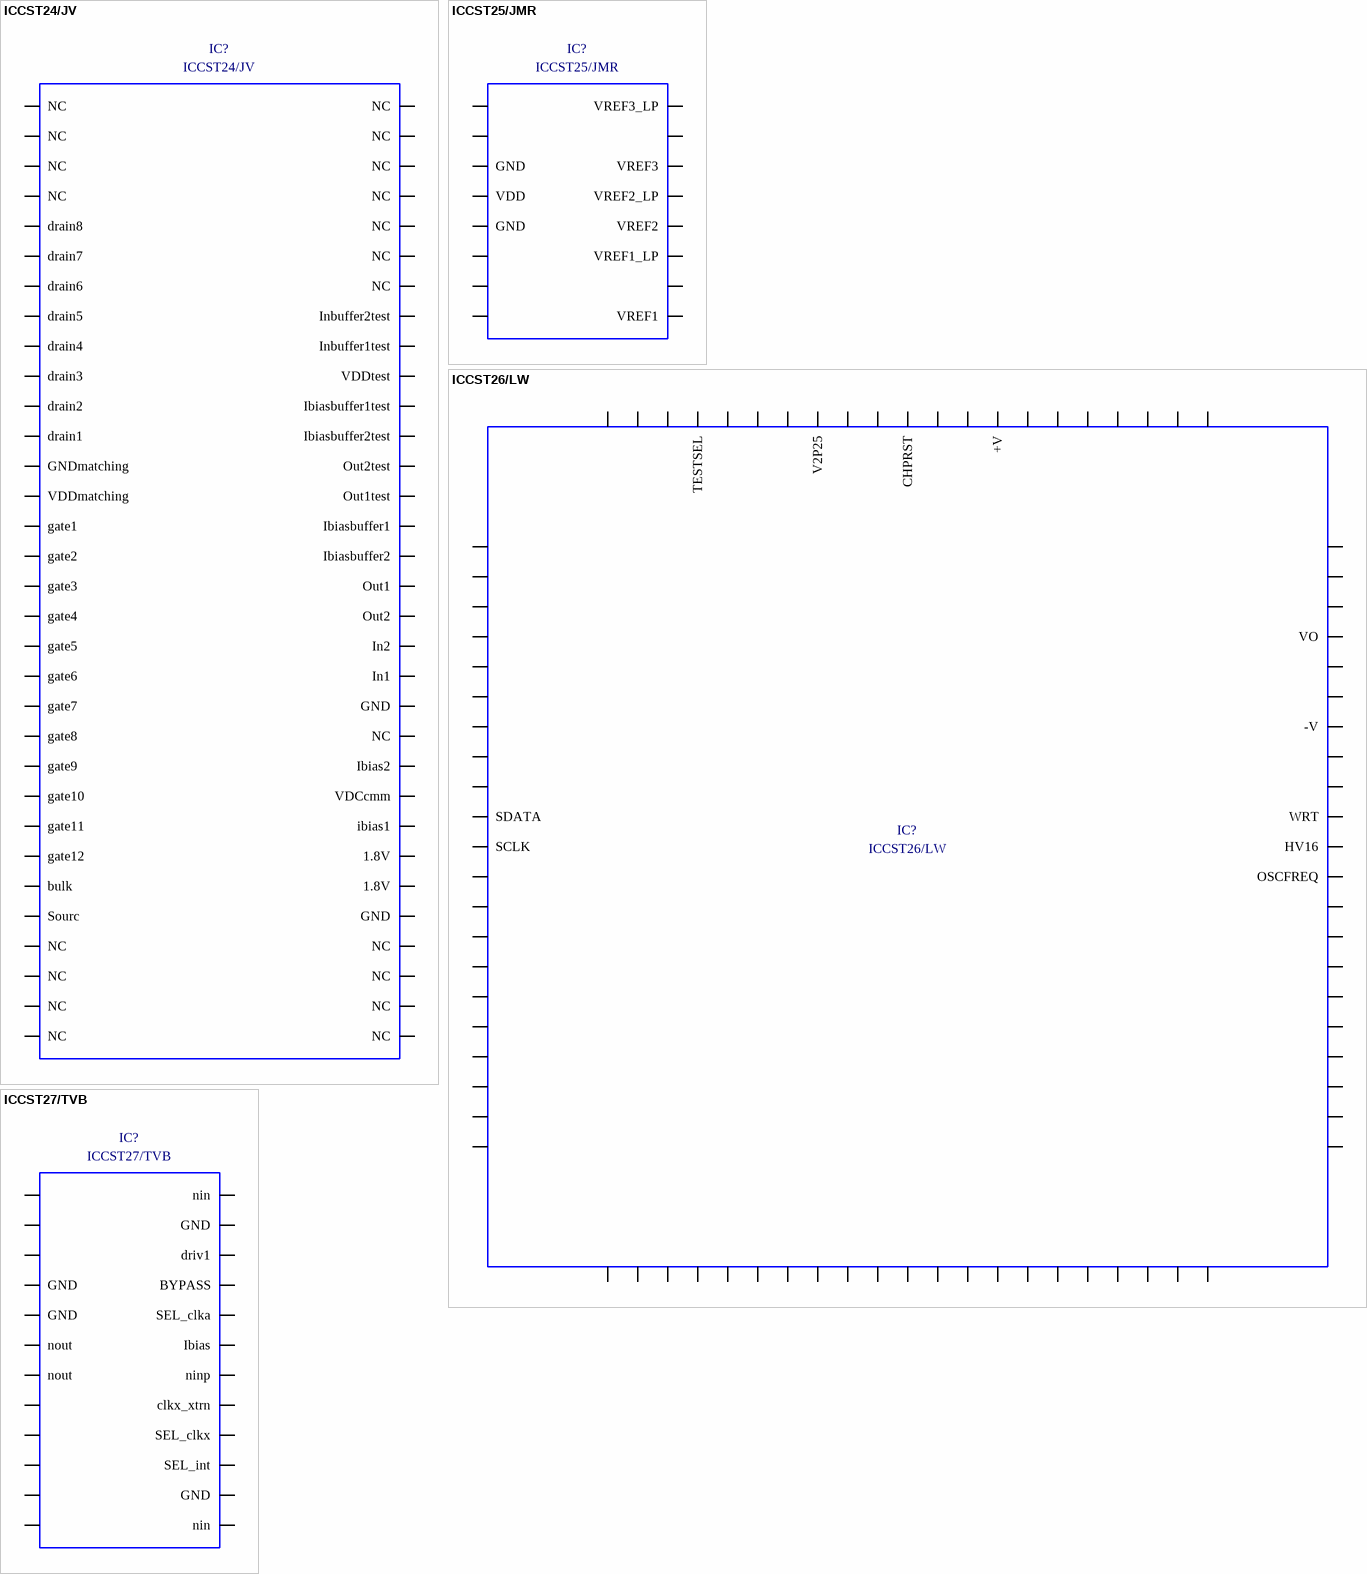
[diagram p211: symbols ICCST24/JV to ICCST27/TVB]

## ICCST24/JV
designator IC?
ref. Jens Verbeeck; Part Number: ICCST24/JV; Component Kind: Standard; Component Type: Standard; Designator: ICCST24/JV; Footprint: icv DIP64-900; Library Reference: ICCST24/JV; Pin Count: 64
footprint icv DIP64-900
pins: 1 NC, 2 NC, 3 NC, 4 NC, 5 drain8, 6 drain7, 7 drain6, 8 drain5, 9 drain4, 10 drain3, 11 drain2, 12 drain1, 13 GNDmatching, 14 VDDmatching, 15 gate1, 16 gate2, 17 gate3, 18 gate4, 19 gate5, 20 gate6, 21 gate7, 22 gate8, 23 gate9, 24 gate10, 25 gate11, 26 gate12, 27 bulk, 28 Sourc, 29 NC, 30 NC, 31 NC, 32 NC, 33 NC, 34 NC, 35 NC, 36 NC, 37 GND, 38 1.8V, 39 1.8V, 40 ibias1, 41 VDCcmm, 42 Ibias2, 43 NC, 44 GND, 45 In1, 46 In2, 47 Out2, 48 Out1, 49 Ibiasbuffer2, 50 Ibiasbuffer1, 51 Out1test, 52 Out2test, 53 Ibiasbuffer2test, 54 Ibiasbuffer1test, 55 VDDtest, 56 Inbuffer1test, 57 Inbuffer2test, 58 NC, 59 NC, 60 NC, 61 NC, 62 NC, 63 NC, 64 NC

## ICCST25/JMR
designator IC?
ref. Jean-Michel Redouté; Part Number: ICCST25/JMR; Component Kind: Standard; Component Type: Standard; Designator: ICCST25/JMR; Footprint: smd SOICN/16; Library Reference: ICCST25/JMR; Pin Count: 16
footprint smd SOICN/16
pins: 1, 2, 3 GND, 4 VDD, 5 GND, 6, 7, 8, 9 VREF1, 10, 11 VREF1_LP, 12 VREF2, 13 VREF2_LP, 14 VREF3, 15, 16 VREF3_LP

## ICCST26/LW
designator IC?
ref. Wen Lianggong; Part Number: ICCST26/LW; Component Kind: Standard; Component Type: Standard; Designator: ICCST26/LW; Footprint: smd LCC/84; Library Reference: ICCST26/LW; Pin Count: 84
footprint smd LCC/84
pins: 1, 2, 3, 4, 5, 6, 7, 8, 9, 10, 11, 12, 13, 14, 15, 16, 17, 18, 19, 20, 21 OSCFREQ, 22 HV16, 23 WRT, 24, 25, 26 -V, 27, 28, 29 VO, 30, 31, 32, 33, 34, 35, 36, 37, 38, 39, 40 +V, 41, 42, 43 CHPRST, 44, 45, 46 V2P25, 47, 48, 49, 50 TESTSEL, 51, 52, 53, 54, 55, 56, 57, 58, 59, 60, 61, 62, 63 SDATA, 64 SCLK, 65, 66, 67, 68, 69, 70, 71, 72, 73, 74, 75, 76, 77, 78, 79, 80, 81, 82, 83, 84

## ICCST27/TVB
designator IC?
ref. Tom Van Breussegem; Part Number: ICCST27/TVB; Component Kind: Standard; Component Type: Standard; Designator: ICCST27/TVB; Footprint: icv DIP24-600 (Aries Zif 24-6554-11); Library Reference: ICCST27/TVB; Pin Count: 24
footprint icv DIP24-600 (Aries Zif 24-6554-11)
pins: 1, 2, 3, 4 GND, 5 GND, 6 nout, 7 nout, 8, 9, 10, 11, 12, 13 nin, 14 GND, 15 SEL_int, 16 SEL_clkx, 17 clkx_xtrn, 18 ninp, 19 Ibias, 20 SEL_clka, 21 BYPASS, 22 driv1, 23 GND, 24 nin

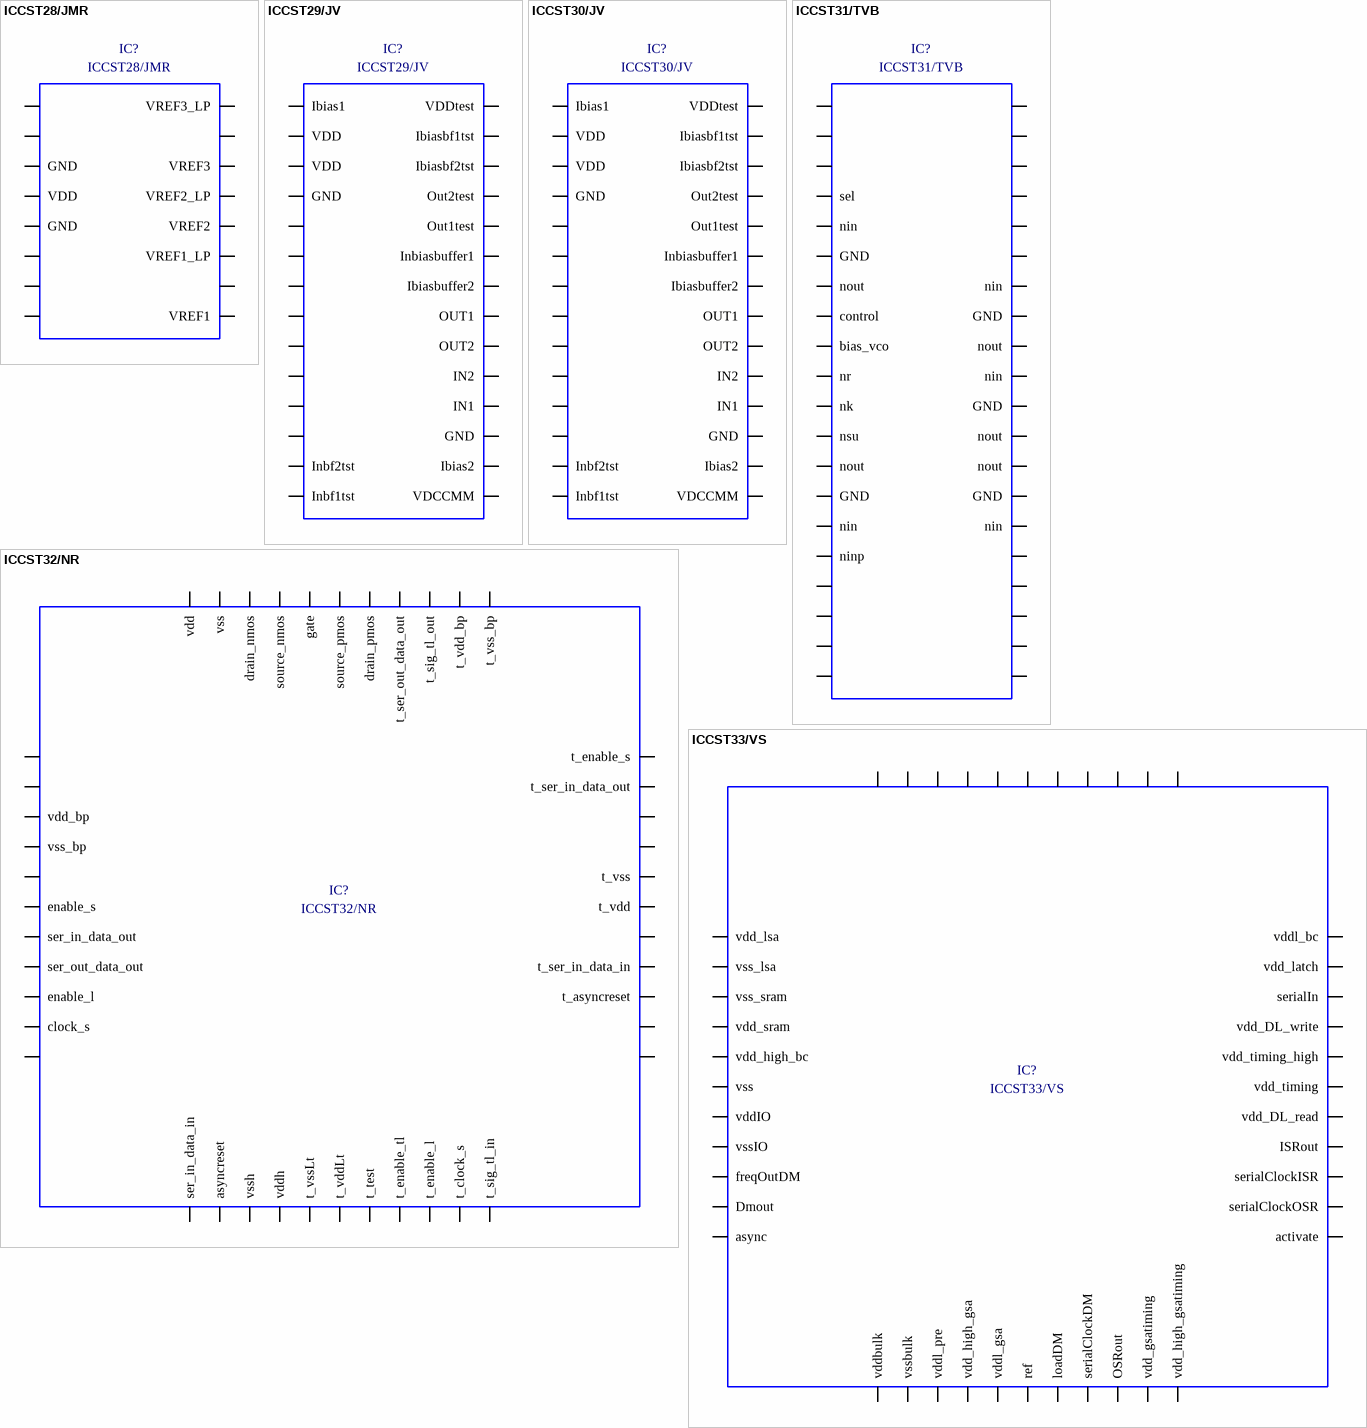
[diagram p212: symbols ICCST28/JMR to ICCST33/VS]

## ICCST28/JMR
designator IC?
ref. Jean-Michel Redouté; Part Number: ICCST28/JMR; Component Kind: Standard; Component Type: Standard; Designator: ICCST28/JMR; Footprint: smd SOICW/16; Library Reference: ICCST28/JMR; Pin Count: 16
footprint smd SOICW/16
pins: 1, 2, 3 GND, 4 VDD, 5 GND, 6, 7, 8, 9 VREF1, 10, 11 VREF1_LP, 12 VREF2, 13 VREF2_LP, 14 VREF3, 15, 16 VREF3_LP

## ICCST29/JV
designator IC?
ref. Jens Verbeeck; Part Number: ICCST29/JV; Component Kind: Standard; Component Type: Standard; Designator: ICCST29/JV; Footprint: icv DIP28-600; Library Reference: ICCST29/JV; Pin Count: 28
footprint icv DIP28-600
pins: 1 Ibias1, 2 VDD, 3 VDD, 4 GND, 5, 6, 7, 8, 9, 10, 11, 12, 13 Inbf2tst, 14 Inbf1tst, 15 VDCCMM, 16 Ibias2, 17 GND, 18 IN1, 19 IN2, 20 OUT2, 21 OUT1, 22 Ibiasbuffer2, 23 Inbiasbuffer1, 24 Out1test, 25 Out2test, 26 Ibiasbf2tst, 27 Ibiasbf1tst, 28 VDDtest

## ICCST30/JV
designator IC?
ref. Jens Verbeeck; Part Number: ICCST30/JV; Component Kind: Standard; Component Type: Standard; Designator: ICCST30/JV; Footprint: smd icv DIP28-600 (TTH socket); Library Reference: ICCST30/JV; Pin Count: 28
footprint smd icv DIP28-600 (TTH socket)
pins: 1 Ibias1, 2 VDD, 3 VDD, 4 GND, 5, 6, 7, 8, 9, 10, 11, 12, 13 Inbf2tst, 14 Inbf1tst, 15 VDCCMM, 16 Ibias2, 17 GND, 18 IN1, 19 IN2, 20 OUT2, 21 OUT1, 22 Ibiasbuffer2, 23 Inbiasbuffer1, 24 Out1test, 25 Out2test, 26 Ibiasbf2tst, 27 Ibiasbf1tst, 28 VDDtest

## ICCST31/TVB
designator IC?
ref. Tom Van Breussegem; Part Number: ICCST31/TVB; Component Kind: Standard; Component Type: Standard; Designator: ICCST31/TVB; Footprint: icv DIP40-600 (Aries Zif 40-6554-10); Library Reference: ICCST31/TVB; Pin Count: 40
footprint icv DIP40-600 (Aries Zif 40-6554-10)
pins: 1, 2, 3, 4 sel, 5 nin, 6 GND, 7 nout, 8 control, 9 bias_vco, 10 nr, 11 nk, 12 nsu, 13 nout, 14 GND, 15 nin, 16 ninp, 17, 18, 19, 20, 21, 22, 23, 24, 25, 26 nin, 27 GND, 28 nout, 29 nout, 30 GND, 31 nin, 32 nout, 33 GND, 34 nin, 35, 36, 37, 38, 39, 40

## ICCST32/NR
designator IC?
ref. Nele Reynders; Part Number: ICCST32/NR; Component Kind: Standard; Component Type: Standard; Designator: ICCST32/NR; Footprint: icv LCC/.1/44 (Yamaichi IC530444306); Library Reference: ICCST32/NR; Pin Count: 44
footprint icv LCC/.1/44 (Yamaichi IC530444306)
pins: 1 source_pmos, 2 gate, 3 source_nmos, 4 drain_nmos, 5 vss, 6 vdd, 7, 8, 9 vdd_bp, 10 vss_bp, 11, 12 enable_s, 13 ser_in_data_out, 14 ser_out_data_out, 15 enable_l, 16 clock_s, 17, 18 ser_in_data_in, 19 asyncreset, 20 vssh, 21 vddh, 22 t_vssLt, 23 t_vddLt, 24 t_test, 25 t_enable_tl, 26 t_enable_l, 27 t_clock_s, 28 t_sig_tl_in, 29, 30, 31 t_asyncreset, 32 t_ser_in_data_in, 33, 34 t_vdd, 35 t_vss, 36, 37, 38 t_ser_in_data_out, 39 t_enable_s, 40 t_vss_bp, 41 t_vdd_bp, 42 t_sig_tl_out, 43 t_ser_out_data_out, 44 drain_pmos

## ICCST33/VS
designator IC?
ref. Vibhu Sharma; Part Number: ICCST33/VS; Component Kind: Standard; Component Type: Standard; Designator: ICCST33/VS; Footprint: icv LCC/.1/44 (Yamaichi IC530444306); Library Reference: ICCST33/VS; Pin Count: 44
footprint icv LCC/.1/44 (Yamaichi IC530444306)
pins: 1, 2, 3, 4, 5, 6, 7 vdd_lsa, 8 vss_lsa, 9 vss_sram, 10 vdd_sram, 11 vdd_high_bc, 12 vss, 13 vddIO, 14 vssIO, 15 freqOutDM, 16 Dmout, 17 async, 18 vddbulk, 19 vssbulk, 20 vddl_pre, 21 vdd_high_gsa, 22 vddl_gsa, 23 ref, 24 loadDM, 25 serialClockDM, 26 OSRout, 27 vdd_gsatiming, 28 vdd_high_gsatiming, 29 activate, 30 serialClockOSR, 31 serialClockISR, 32 ISRout, 33 vdd_DL_read, 34 vdd_timing, 35 vdd_timing_high, 36 vdd_DL_write, 37 serialIn, 38 vdd_latch, 39 vddl_bc, 40, 41, 42, 43, 44

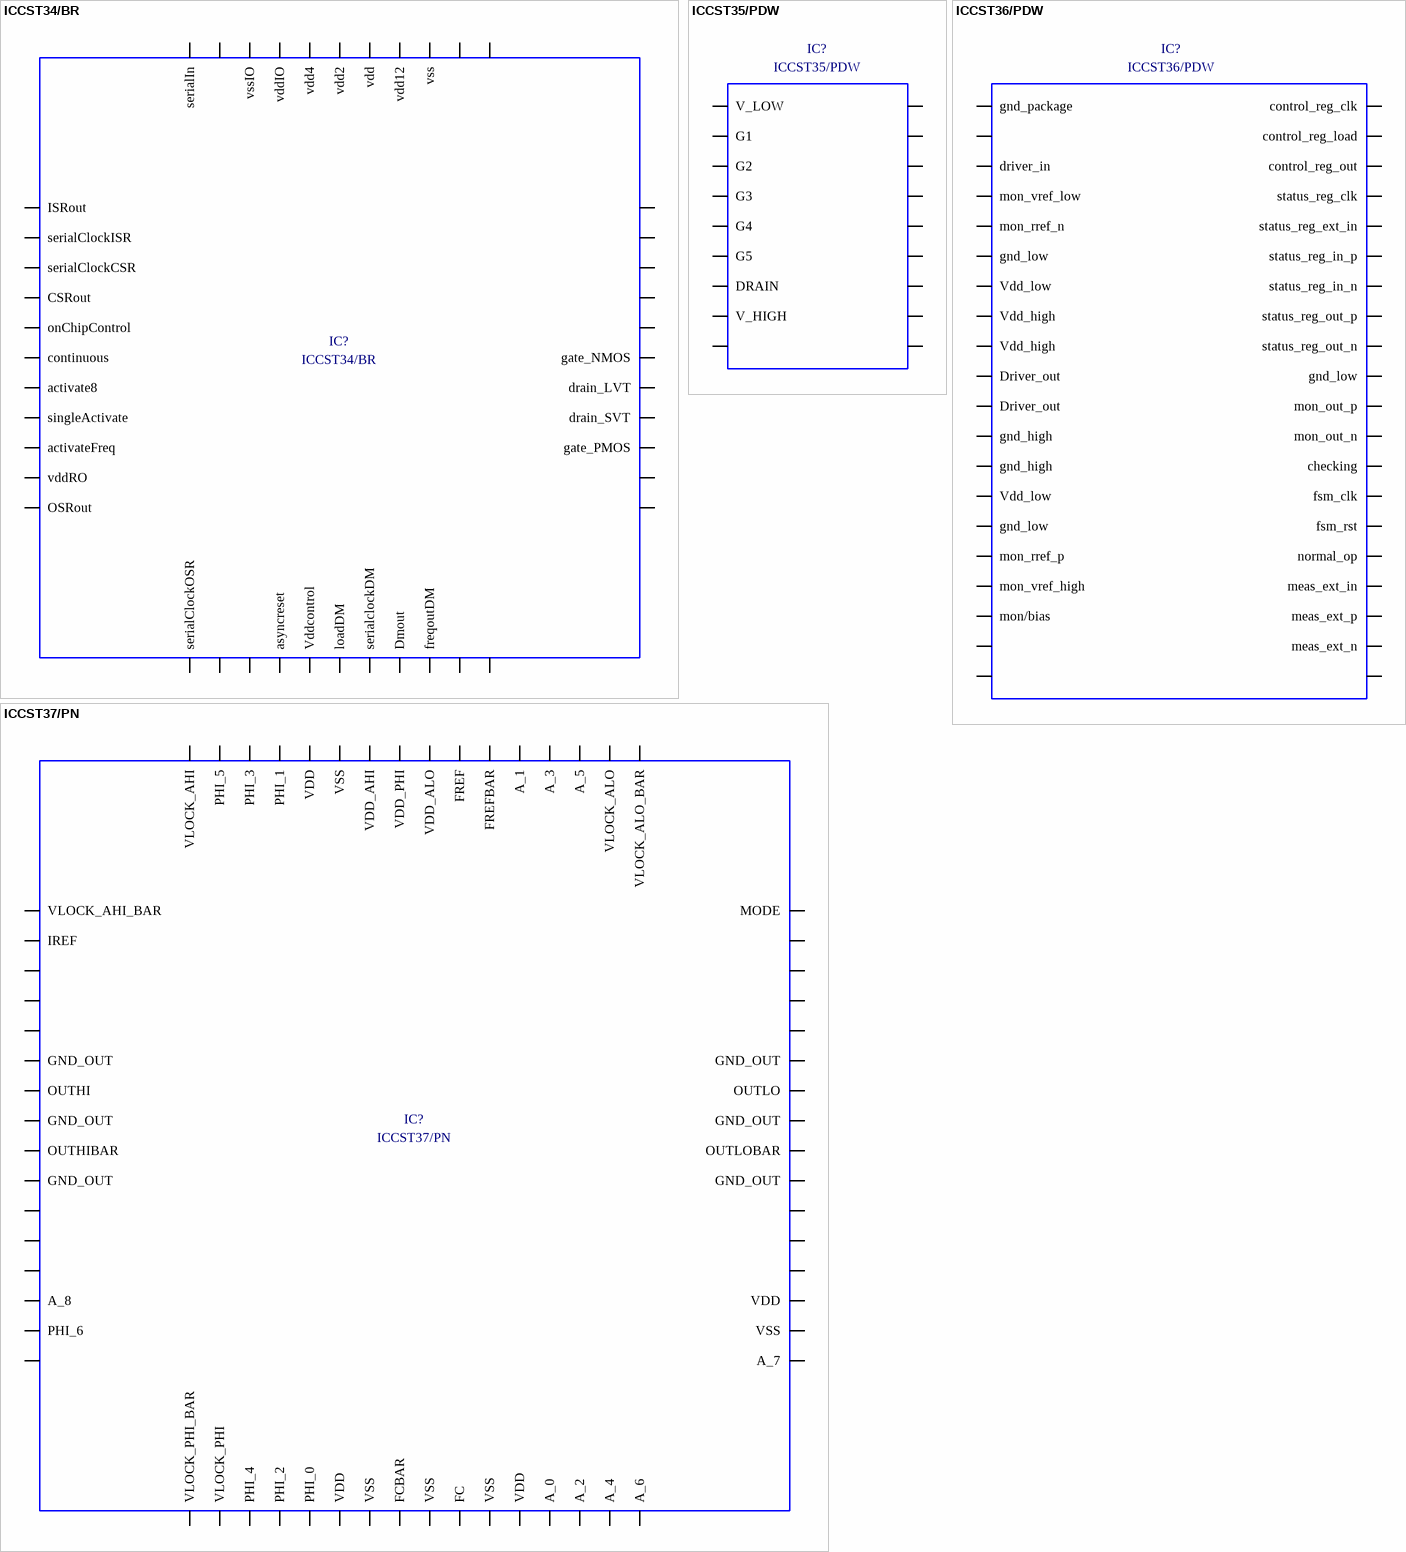
[diagram p213: symbols ICCST34/BR to ICCST37/PN]